# Altium schematic symbol library Schlib.SchLib: 992 symbols (part 1 of 7)
Pins are listed as number, name and electrical type; pins without a type are passive.

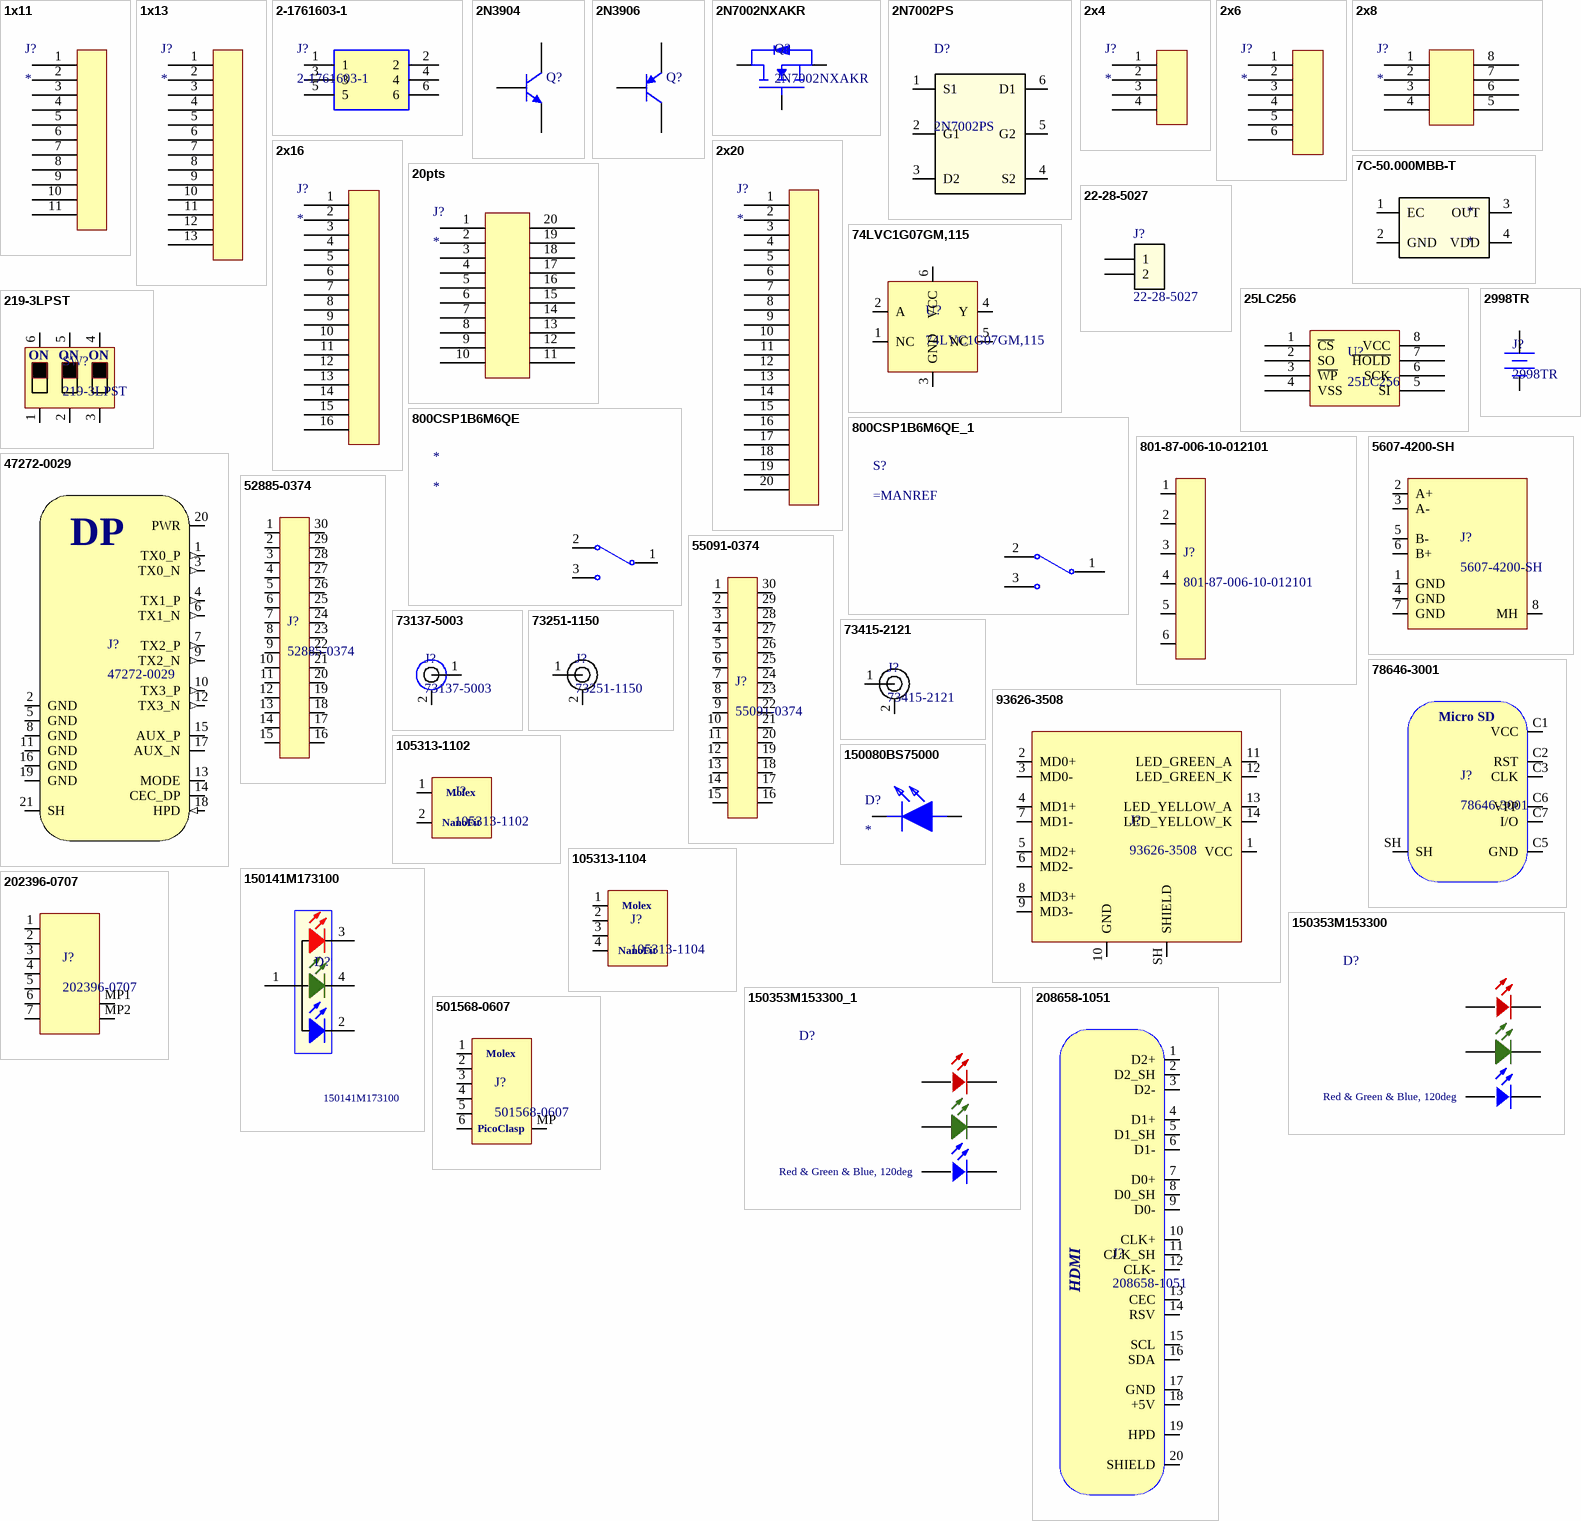
[diagram p0: symbols 1x11 to 501568-0607]

## 1x11
designator J?
pins: 1, 2, 3, 4, 5, 6, 7, 8, 9, 10, 11

## 1x13
designator J?
pins: 1, 2, 3, 4, 5, 6, 7, 8, 9, 10, 11, 12, 13

## 2-1761603-1
designator J?
pins: 1, 2, 3, 4, 5, 6

## 2N3904
designator Q?
NPN General Purpose Amplifier; Published: 8-Jun-2000; LatestRevisionDate: 15-Jan-2003; LatestRevisionNote: PCB Footprint 'BCY-W3/D4.7' replaced; DatasheetVersion: 1997; PackageVersion: Sep-1998; PackageReference: TO-92A; Publisher: Altium Limited; PackageDescription: TO, Flat Index; 3 In-Line, Axial Leads; Body Dia. 4.5mm; Leads 0.51 x 0.48 mm (max); ComponentLink1Description: Manufacturer Link; ComponentLink1URL: http://www.fairchildsemi.com/; ComponentLink2Description: Datasheet; ComponentLink2URL: http://www.fairchildsemi.com/ds/2N%2F2N3904.pdf
footprint TO-92A (TO, Flat Index; 3 In-Line, Axial Leads; Body Dia. 4.5mm; Leads 0.51 x 0.48 mm (max))
simulation model 2N3904 (NPN)
signal-integrity model 2N3904
pins: 1 E, 2 B, 3 C

## 2N3906
designator Q?
PNP General Purpose Amplifier; Published: 8-Jun-2000; LatestRevisionDate: 15-Jan-2003; LatestRevisionNote: PCB Footprint 'BCY-W3/D4.7' replaced; DatasheetVersion: 1997; PackageVersion: Sep-1998; PackageReference: TO-92A; Publisher: Altium Limited; PackageDescription: TO, Flat Index; 3 In-Line, Axial Leads; Body Dia. 4.5mm; Leads 0.51 x 0.48 mm (max); ComponentLink1Description: Manufacturer Link; ComponentLink1URL: http://www.fairchildsemi.com/; ComponentLink2Description: Datasheet; ComponentLink2URL: http://www.fairchildsemi.com/ds/2N%2F2N3906.pdf
footprint TO-92A (TO, Flat Index; 3 In-Line, Axial Leads; Body Dia. 4.5mm; Leads 0.51 x 0.48 mm (max))
simulation model 2N3906 (PNP)
signal-integrity model 2N3906
pins: 1 E, 2 B, 3 C

## 2N7002NXAKR
designator Q?
MOSFET N-Channel Vds=60V Id=300mA with ESD Protection; Manufacturer: Nexperia; Manufacturer Part Number: 2N7002NXAKR
footprint SSM3J338R,LF-SOT23-F
pins: D, G, S

## 2N7002PS
designator D?
Manufacturer_Name: Nexperia; Manufacturer_Part_Number: PESD5V0L4UG,115; Geometry.Height: 1.1mm; Mouser Part Number: 771-PESD5V0L4UG-T/R; Mouser Price/Stock: https://www.mouser.com/Search/Refine.aspx?Keyword=771-PESD5V0L4UG-T%2FR; RS Part Number: 0509475; RS Price/Stock: http://uk.rs-online.com/web/p/products/0509475; Datasheet Link: https://assets.nexperia.com/documents/data-sheet/PESDXL4UF_G_W.pdf
pins: 1 S1, 2 G1, 3 D2, 4 S2, 5 G2, 6 D1

## 2x4
designator J?
pins: 1, 2, 3, 4

## 2x6
designator J?
pins: 1, 2, 3, 4, 5, 6

## 2x8
designator J?
pins: 1, 2, 3, 4, 5, 6, 7, 8

## 2x16
designator J?
pins: 1, 2, 3, 4, 5, 6, 7, 8, 9, 10, 11, 12, 13, 14, 15, 16

## 2x20
designator J?
pins: 1, 2, 3, 4, 5, 6, 7, 8, 9, 10, 11, 12, 13, 14, 15, 16, 17, 18, 19, 20

## 7C-50.000MBB-T
designator *
pins: 1 EC, 2 GND, 3 OUT, 4 VDD

## 20pts
designator J?
pins: 1, 2, 3, 4, 5, 6, 7, 8, 9, 10, 11, 12, 13, 14, 15, 16, 17, 18, 19, 20

## 22-28-5027
designator J?
Manufacturer_Name: Molex; Geometry.Height: 10.67mm; Manufacturer_Part_Number: 22-28-5027; Mouser Part Number: 538-22-28-5027; Mouser Price/Stock: https://www.mouser.com/Search/Refine.aspx?Keyword=538-22-28-5027; RS Part Number: *; RS Price/Stock: *; Datasheet Link: https://www.molex.com/pdm_docs/sd/022285027_sd.pdf
pins: 1, 2

## 25LC256
designator U?
8K-256K SPI Serial EEPROM High Temp Family Data Sheet
pins: 1 ~{CS}, 2 SO, 3 ~{WP}, 4 VSS, 5 SI, 6 SCK, 7 ~{HOLD}, 8 VCC

## 74LVC1G07GM,115
designator U?
Open-Drain Buffer 3.3V/5V Non-Inverting XSON-6; Manufacturer: Nexperia; Manufacturer Part Number: 74LVC1G07GM,115
footprint XSON-6-SOT1202 (SON, 6-Leads, Body 0.98x1.00mm, Pitch 0.35mm, IPC Medium Density)
pins: 1 NC, 2 A, 3 GND, 4 Y, 5 NC, 6 VCC

## 219-3LPST
designator SW?
DIP Switches SPST 3x; Manufacturer: CTS; Manufacturer Part Number: 219-3LPST
footprint 219-3LPST
pins: 1, 2, 3, 4, 5, 6
text: ON

## 800CSP1B6M6QE
designator *
pins: 1, 2, 3

## 800CSP1B6M6QE_1
designator S?
pins: 1, 2, 3

## 801-87-006-10-012101
designator J?
Pin Socket 6 Position 2.54mm Pitch; Manufacturer: preci-dip; Manufacturer Part Number: 801-87-006-10-012101
footprint 801-87-006-10-012101
pins: 1, 2, 3, 4, 5, 6

## 2998TR
designator J?
Coin Cell Battery Holder 6.8mm; Manufacturer: Keystone Electronics; Manufacturer Part Number: 2998TR
footprint 2998TR (6.8mm Coin Cell Holder SMD)
pins: A, K

## 5607-4200-SH
designator J?
SATA Connector 7-Position 1.27mm Pitch Male Right Angle SMD; Manufacturer: 3M; Manufacturer Part Number: 5607-4200-SH
footprint 5607-4200-SH
pins: 1 GND, 2 A+, 3 A-, 4 GND, 5 B-, 6 B+, 7 GND, 8 MH

## 47272-0029
designator J?
DisplayPort Male Receptacle, Right-Angle, Surface Mount, 0.76µm Gold (Au) Plating, 20 Circuits, 0.50mm Pitch, without Cover, Lead-Free; Manufacturer: Molex; Manufacturer Part Number: 47272-0029
footprint 47272-0029
pins: 1 TX0_P (out), 2 GND (power), 3 TX0_N (out), 4 TX1_P (out), 5 GND (power), 6 TX1_N (out), 7 TX2_P (out), 8 GND (power), 9 TX2_N (out), 10 TX3_P (out), 11 GND (power), 12 TX3_N (out), 13 MODE, 14 CEC_DP, 15 AUX_P (io), 16 GND (power), 17 AUX_N (io), 18 HPD (in), 19 GND (power), 20 PWR (power), 21 SH (power)
text: DP

## 52885-0374
designator J?
SlimStack Board-to-Board Connector, 0.635mm Pitch, 0.635 Series, Receptacle, 6.00 to 10.00mm Mated Height, 6.40mm Mated Width, 30 Circuits; Manufacturer: Molex; Manufacturer Part Number: 52885-0374
footprint 52885-0374
pins: 1, 2, 3, 4, 5, 6, 7, 8, 9, 10, 11, 12, 13, 14, 15, 16, 17, 18, 19, 20, 21, 22, 23, 24, 25, 26, 27, 28, 29, 30

## 55091-0374
designator J?
SlimStack Board-to-Board Connector, 0.635mm Pitch, 0.635 Series, Plug, 6.00 or 12.00mm Mated Height, 6.40mm Mated Width, 30 Circuits; Manufacturer: Molex; Manufacturer Part Number: 55091-0374
footprint 55091-0374
pins: 1, 2, 3, 4, 5, 6, 7, 8, 9, 10, 11, 12, 13, 14, 15, 16, 17, 18, 19, 20, 21, 22, 23, 24, 25, 26, 27, 28, 29, 30

## 73137-5003
designator J?
BNC 50 Ohm, Right-Angle PCB Bulkhead Jack Receptacle, Panel Isolated, Black PBT Housing, Housing Height 13.20mm; Manufacturer: Molex; Manufacturer Part Number: 73137-5003
footprint 73137-5003
pins: 1, 2

## 73251-1150
designator J?
RF Connector 50 Ohms, SMA Jack Receptacle, Edge Mount, .25µm Gold (Au) Plating; Manufacturer: Molex; Manufacturer Part Number: 73251-1150
footprint 73251-1150
pins: 1, 2

## 73415-2121
designator J?
RF Connector 50 Ohms, MMCX Vertical Plug, PCB, Plating Per Commercial Requirements, Bulk; Manufacturer: Molex; Manufacturer Part Number: 73415-2121
footprint 73415-2121
pins: 1, 2

## 78646-3001
designator J?
micro-SIM Card Socket without Detect Switch, 1.45mm Height, Push-Pull Eject, Surface Mount, 6 Circuits, Low-Halogen, Lead-Free; Manufacturer: Molex; Manufacturer Part Number: 78646-3001
footprint 78646-3001
pins: C1 VCC, C2 RST, C3 CLK, C5 GND, C6 VPP, C7 I/O, SH
text: Micro SD

## 93626-3508
designator J?
MXMag Gigabit Ethernet 8 Core Non-PoE Single-Port RJ45 Connector, 21.40mm Depth, 3.30mm Phy Pin Length, Right-Angle, Standard Profile, with Shield Tabs, with Green/Yellow-Green/Yellow LEDs, Standard Temperature, with 2kV Shield Connection; Manufacturer: Molex; Manufacturer Part Number: 93626-3508
footprint 93626-3508
pins: 1 VCC, 2 MD0+, 3 MD0-, 4 MD1+, 5 MD2+, 6 MD2-, 7 MD1-, 8 MD3+, 9 MD3-, 10 GND, 11 LED_GREEN_A, 12 LED_GREEN_K, 13 LED_YELLOW_A, 14 LED_YELLOW_K, SH SHIELD

## 105313-1102
designator J?
Nano-Fit Right-Angle Header, Through Hole, 2.50mm Pitch, Single Row, 2 Circuits, Tin (Sn) Plating, Black, Glow-Wire Capable, Tray; Manufacturer: Molex; Manufacturer Part Number: 105313-1102
footprint 105313-1102
pins: 1, 2
text: NanoFit

## 105313-1104
designator J?
Nano-Fit Right-Angle Header, Through Hole, 2.50mm Pitch, Single Row, 2 Circuits, Tin (Sn) Plating, Black, Glow-Wire Capable, Tray; Manufacturer: Molex; Manufacturer Part Number: 105313-1104
footprint 105313-1104
pins: 1, 2, 3, 4
text: NanoFit

## 150080BS75000
designator D?
pins: 1 K, 2 A

## 150141M173100
designator D?
pins: 1 A, 2 K, 3 K, 4 K

## 150353M153300
designator D?, comment Red & Green & Blue, 120deg
footprint WL-SFTW_5050_150505M173300
pins: 1 A, 2 K, 3 A, 4 K, 5 A, 6 K

## 150353M153300_1
designator D?, comment Red & Green & Blue, 120deg
footprint WL-SFTW_5050_150505M173300
pins: 1 A, 2 K, 3 A, 4 K, 5 A, 6 K

## 202396-0707
designator J?
1.00mm Pitch, Pico-Clasp PCB Header, Single Row, Right-Angle, Surface Mount, 0.10µm Gold Plated, Inner Positive Lock, 7 Circuits, Natural; Manufacturer: Molex; Manufacturer Part Number: 202396-0707
footprint 202396-0707
pins: 1, 2, 3, 4, 5, 6, 7, MP1, MP2

## 208658-1051
designator J?
HDMI v2.1 Receptacle, Right-Angle, Gold Flash Plating, without Mylar, without Flange, Tape and Reel, 19 Circuits; Manufacturer: Molex; Manufacturer Part Number: 208658-1051
footprint 208658-1051
pins: 1 D2+, 2 D2_SH, 3 D2-, 4 D1+, 5 D1_SH, 6 D1-, 7 D0+, 8 D0_SH, 9 D0-, 10 CLK+, 11 CLK_SH, 12 CLK-, 13 CEC, 14 RSV, 15 SCL, 16 SDA, 17 GND, 18 +5V, 19 HPD, 20 SHIELD
text: HDMI

## 501568-0607
designator J?
1.00mm Pitch, Pico-Clasp PCB Header, Single Row, Right-Angle, Surface Mount, Tin Plated, Outer Positive Lock, 6 Circuits, Natural; Manufacturer: Molex; Manufacturer Part Number: 501568-0607
footprint 501568-0607
pins: 1, 2, 3, 4, 5, 6, MP
text: PicoClasp

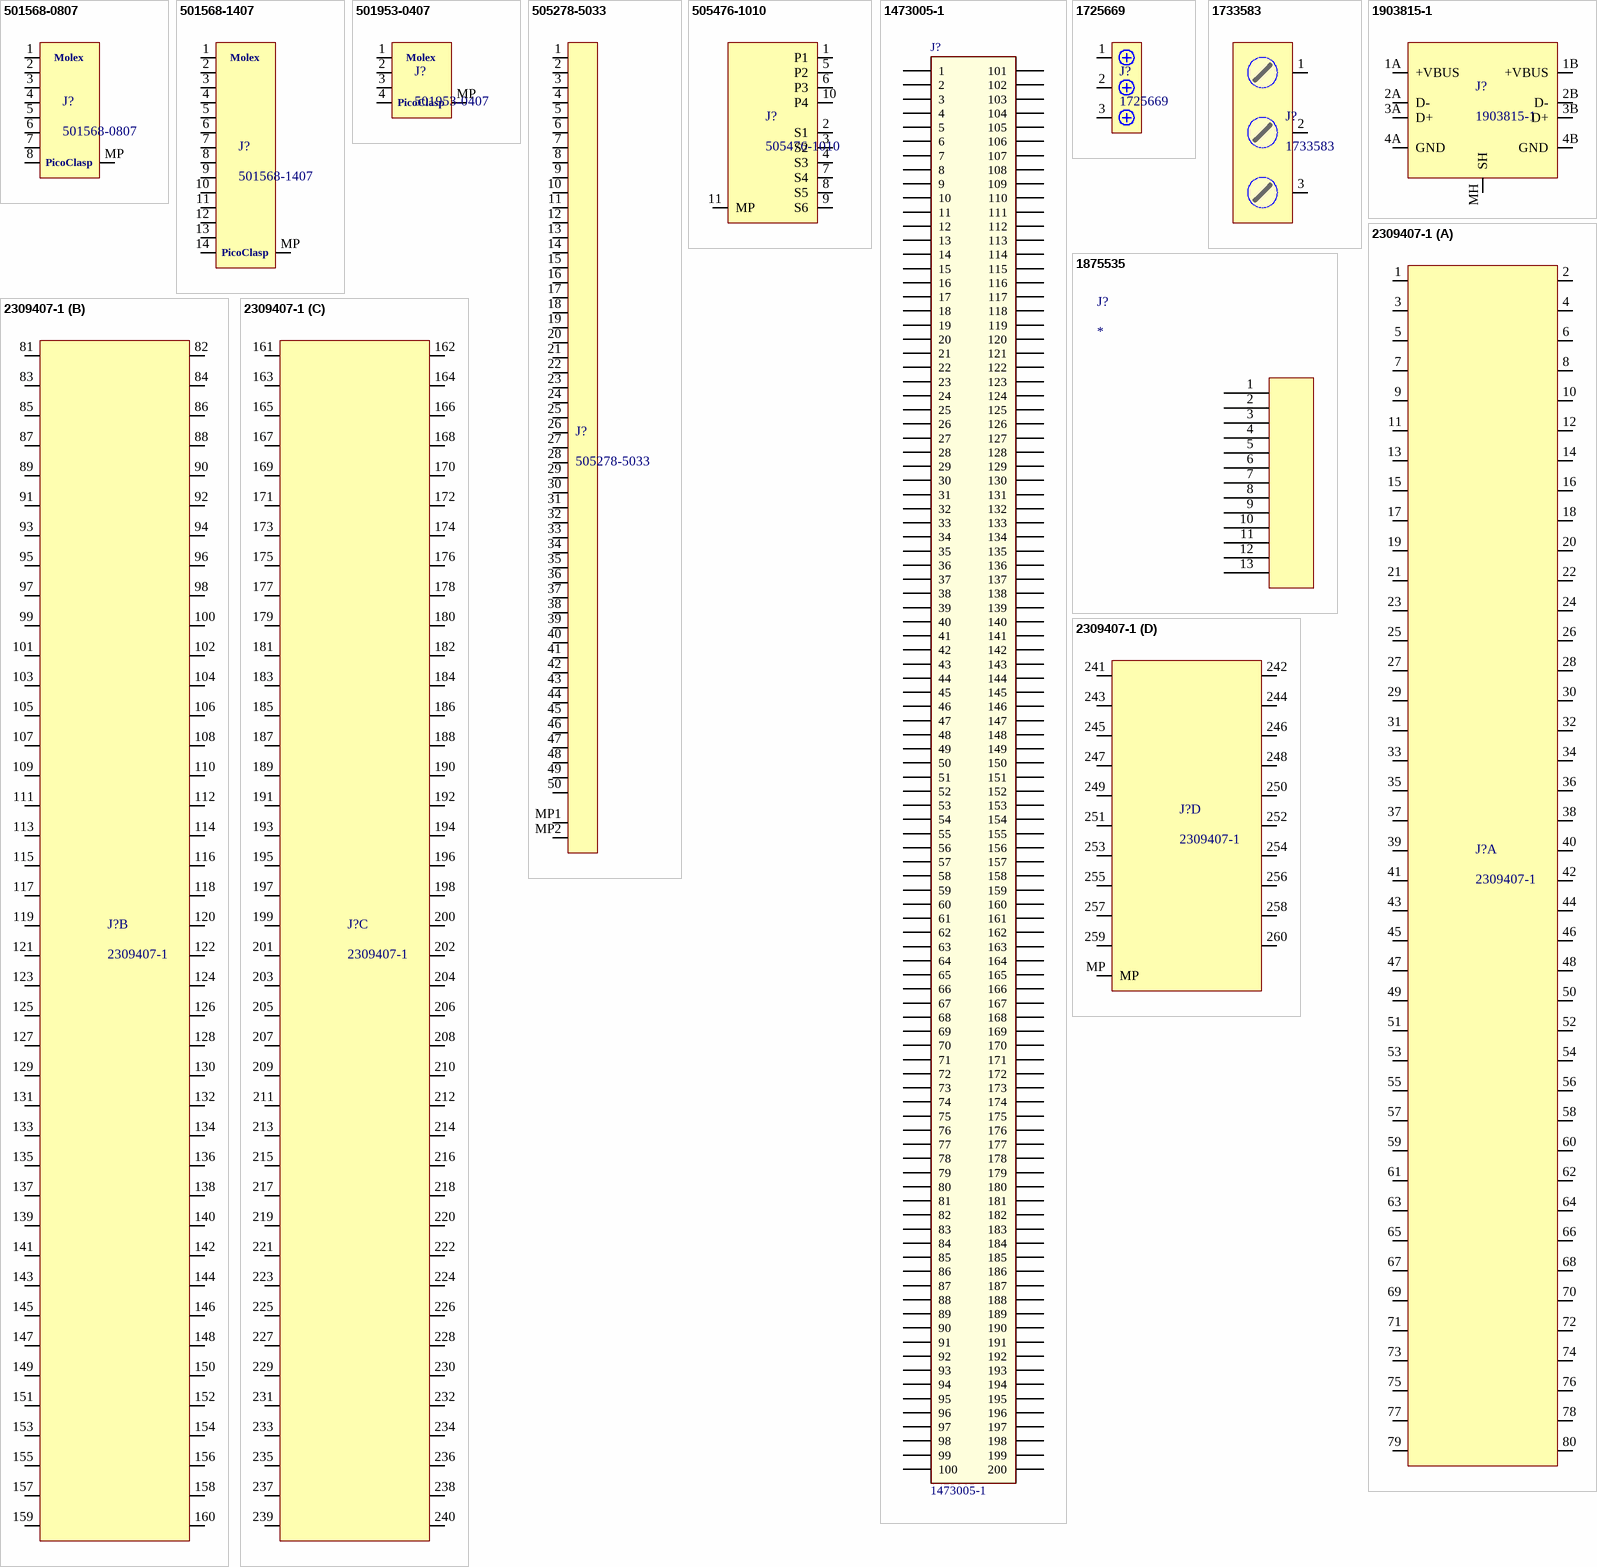
[diagram p1: symbols 501568-0807 to 2309407-1]

## 501568-0807
designator J?
1.00mm Pitch, Pico-Clasp PCB Header, Single Row, Right-Angle, Surface Mount, Tin Plated, Outer Positive Lock, 8 Circuits, Natural; Manufacturer: Molex; Manufacturer Part Number: 501568-0807
footprint 501568-0807
pins: 1, 2, 3, 4, 5, 6, 7, 8, MP
text: PicoClasp

## 501568-1407
designator J?
1.00mm Pitch, Pico-Clasp PCB Header, Single Row, Right-Angle, Surface Mount, Tin Plated, Outer Positive Lock, 14 Circuits, Natural; Manufacturer: Molex; Manufacturer Part Number: 501568-1407
footprint 501568-1407
pins: 1, 2, 3, 4, 5, 6, 7, 8, 9, 10, 11, 12, 13, 14, MP
text: PicoClasp

## 501953-0407
designator J?
1.00mm Pitch, Pico-Clasp PCB Header, Single Row, Right-Angle, Surface Mount, 1.01µm Tin Plated, Outer Positive Lock, 4 Circuits, Natural; Manufacturer: Molex; Manufacturer Part Number: 501953-0407
footprint 501953-0407
pins: 1, 2, 3, 4, MP
text: PicoClasp

## 505278-5033
designator J?
FFC Connector 50 Position 0.5mm Pitch Bottom Contact ZIF; Manufacturer: Molex; Manufacturer Part Number: 505278-5033
footprint 505278-5033
pins: 1, 2, 3, 4, 5, 6, 7, 8, 9, 10, 11, 12, 13, 14, 15, 16, 17, 18, 19, 20, 21, 22, 23, 24, 25, 26, 27, 28, 29, 30, 31, 32, 33, 34, 35, 36, 37, 38, 39, 40, 41, 42, 43, 44, 45, 46, 47, 48, 49, 50, MP1, MP2

## 505476-1010
designator J?
SlimStack Board-to-Board Plug, 0.40mm Pitch, Battery Series, 0.60mm Mated Height, 2.00mm Mated Width, 10 Circuits, 10.0A; Manufacturer: Molex; Manufacturer Part Number: 505476-1010
footprint 505476-1010
pins: 1 P1 (power), 2 S1 (io), 3 S2 (io), 4 S3 (io), 5 P2 (power), 6 P3 (power), 7 S4 (io), 8 S5 (io), 9 S6 (io), 10 P4 (power), 11 MP

## 1473005-1
designator J?
Manufacturer_Name: TE Connectivity; Allied_Number: 70086003; Manufacturer_Part_Number: 1473005-1; Mouser Part Number: 571-1473005-1; Mouser Price/Stock: https://www.mouser.com/Search/Refine.aspx?Keyword=571-1473005-1; RS Part Number: 5422663; RS Price/Stock: http://uk.rs-online.com/web/p/products/5422663; Allied Price/Stock: http://www.alliedelec.com/te-connectivity-1473005-1/70086003/; Datasheet Link: http://docs-emea.rs-online.com/webdocs/139e/0900766b8139e926.pdf
pins: 1, 2, 3, 4, 5, 6, 7, 8, 9, 10, 11, 12, 13, 14, 15, 16, 17, 18, 19, 20, 21, 22, 23, 24, 25, 26, 27, 28, 29, 30, 31, 32, 33, 34, 35, 36, 37, 38, 39, 40, 41, 42, 43, 44, 45, 46, 47, 48, 49, 50, 51, 52, 53, 54, 55, 56, 57, 58, 59, 60, 61, 62, 63, 64, 65, 66, 67, 68, 69, 70, 71, 72, 73, 74, 75, 76, 77, 78, 79, 80, 81, 82, 83, 84, 85, 86, 87, 88, 89, 90, 91, 92, 93, 94, 95, 96, 97, 98, 99, 100, 101, 102, 103, 104, 105, 106, 107, 108, 109, 110, 111, 112, 113, 114, 115, 116, 117, 118, 119, 120, 121, 122, 123, 124, 125, 126, 127, 128, 129, 130, 131, 132, 133, 134, 135, 136, 137, 138, 139, 140, 141, 142, 143, 144, 145, 146, 147, 148, 149, 150, 151, 152, 153, 154, 155, 156, 157, 158, 159, 160, 161, 162, 163, 164, 165, 166, 167, 168, 169, 170, 171, 172, 173, 174, 175, 176, 177, 178, 179, 180, 181, 182, 183, 184, 185, 186, 187, 188, 189, 190, 191, 192, 193, 194, 195, 196, 197, 198, 199, 200

## 1725669
designator J?
Screw Terminal Block 3 Positions 2.54mm; Manufacturer: Phoenix; Manufacturer Part Number: 1725669; Distributor Link: https://www.mouser.de/ProductDetail/Phoenix-Contact/1725669?qs=A%2FKWGUWTCZjmkTL0Oe91ew%3D%3D
footprint 1725669
pins: 1, 2, 3

## 1733583
designator J?
Screw Terminal 3 Position 5.08mm Pitch Phoenix; Manufacturer: Phoenix Contact; Manufacturer Part Number: 1733583
footprint 1733583
pins: 1, 2, 3

## 1875535
designator J?
pins: 1, 2, 3, 4, 5, 6, 7, 8, 9, 10, 11, 12, 13

## 1903815-1
designator J?
USB Connectors, A, 2.0, Standard Profile, Female Receptacle, 2 Port, Top, Right Angle, IP20, Offset, Industrial USB IP20; Manufacturer: TE Connectivity; Manufacturer Part Number: 1903815-1
footprint 1903815-1
pins: 1A +VBUS, 1B +VBUS, 2A D-, 2B D-, 3A D+, 3B D+, 4A GND, 4B GND, MH SH

## 2309407-1
designator J?
SO DIMM Socket, Small Outline (SO), Stack Height .157 in [4 mm], Right Angle Module Orientation, 260 Position, DDR4 DIMM; Manufacturer: TE Connectivity; Manufacturer Part Number: 2309407-1
footprint 2309407-1
part A pins: 1, 2, 3, 4, 5, 6, 7, 8, 9, 10, 11, 12, 13, 14, 15, 16, 17, 18, 19, 20, 21, 22, 23, 24, 25, 26, 27, 28, 29, 30, 31, 32, 33, 34, 35, 36, 37, 38, 39, 40, 41, 42, 43, 44, 45, 46, 47, 48, 49, 50, 51, 52, 53, 54, 55, 56, 57, 58, 59, 60, 61, 62, 63, 64, 65, 66, 67, 68, 69, 70, 71, 72, 73, 74, 75, 76, 77, 78, 79, 80
part B pins: 81, 82, 83, 84, 85, 86, 87, 88, 89, 90, 91, 92, 93, 94, 95, 96, 97, 98, 99, 100, 101, 102, 103, 104, 105, 106, 107, 108, 109, 110, 111, 112, 113, 114, 115, 116, 117, 118, 119, 120, 121, 122, 123, 124, 125, 126, 127, 128, 129, 130, 131, 132, 133, 134, 135, 136, 137, 138, 139, 140, 141, 142, 143, 144, 145, 146, 147, 148, 149, 150, 151, 152, 153, 154, 155, 156, 157, 158, 159, 160
part C pins: 161, 162, 163, 164, 165, 166, 167, 168, 169, 170, 171, 172, 173, 174, 175, 176, 177, 178, 179, 180, 181, 182, 183, 184, 185, 186, 187, 188, 189, 190, 191, 192, 193, 194, 195, 196, 197, 198, 199, 200, 201, 202, 203, 204, 205, 206, 207, 208, 209, 210, 211, 212, 213, 214, 215, 216, 217, 218, 219, 220, 221, 222, 223, 224, 225, 226, 227, 228, 229, 230, 231, 232, 233, 234, 235, 236, 237, 238, 239, 240
part D pins: 241, 242, 243, 244, 245, 246, 247, 248, 249, 250, 251, 252, 253, 254, 255, 256, 257, 258, 259, 260, MP

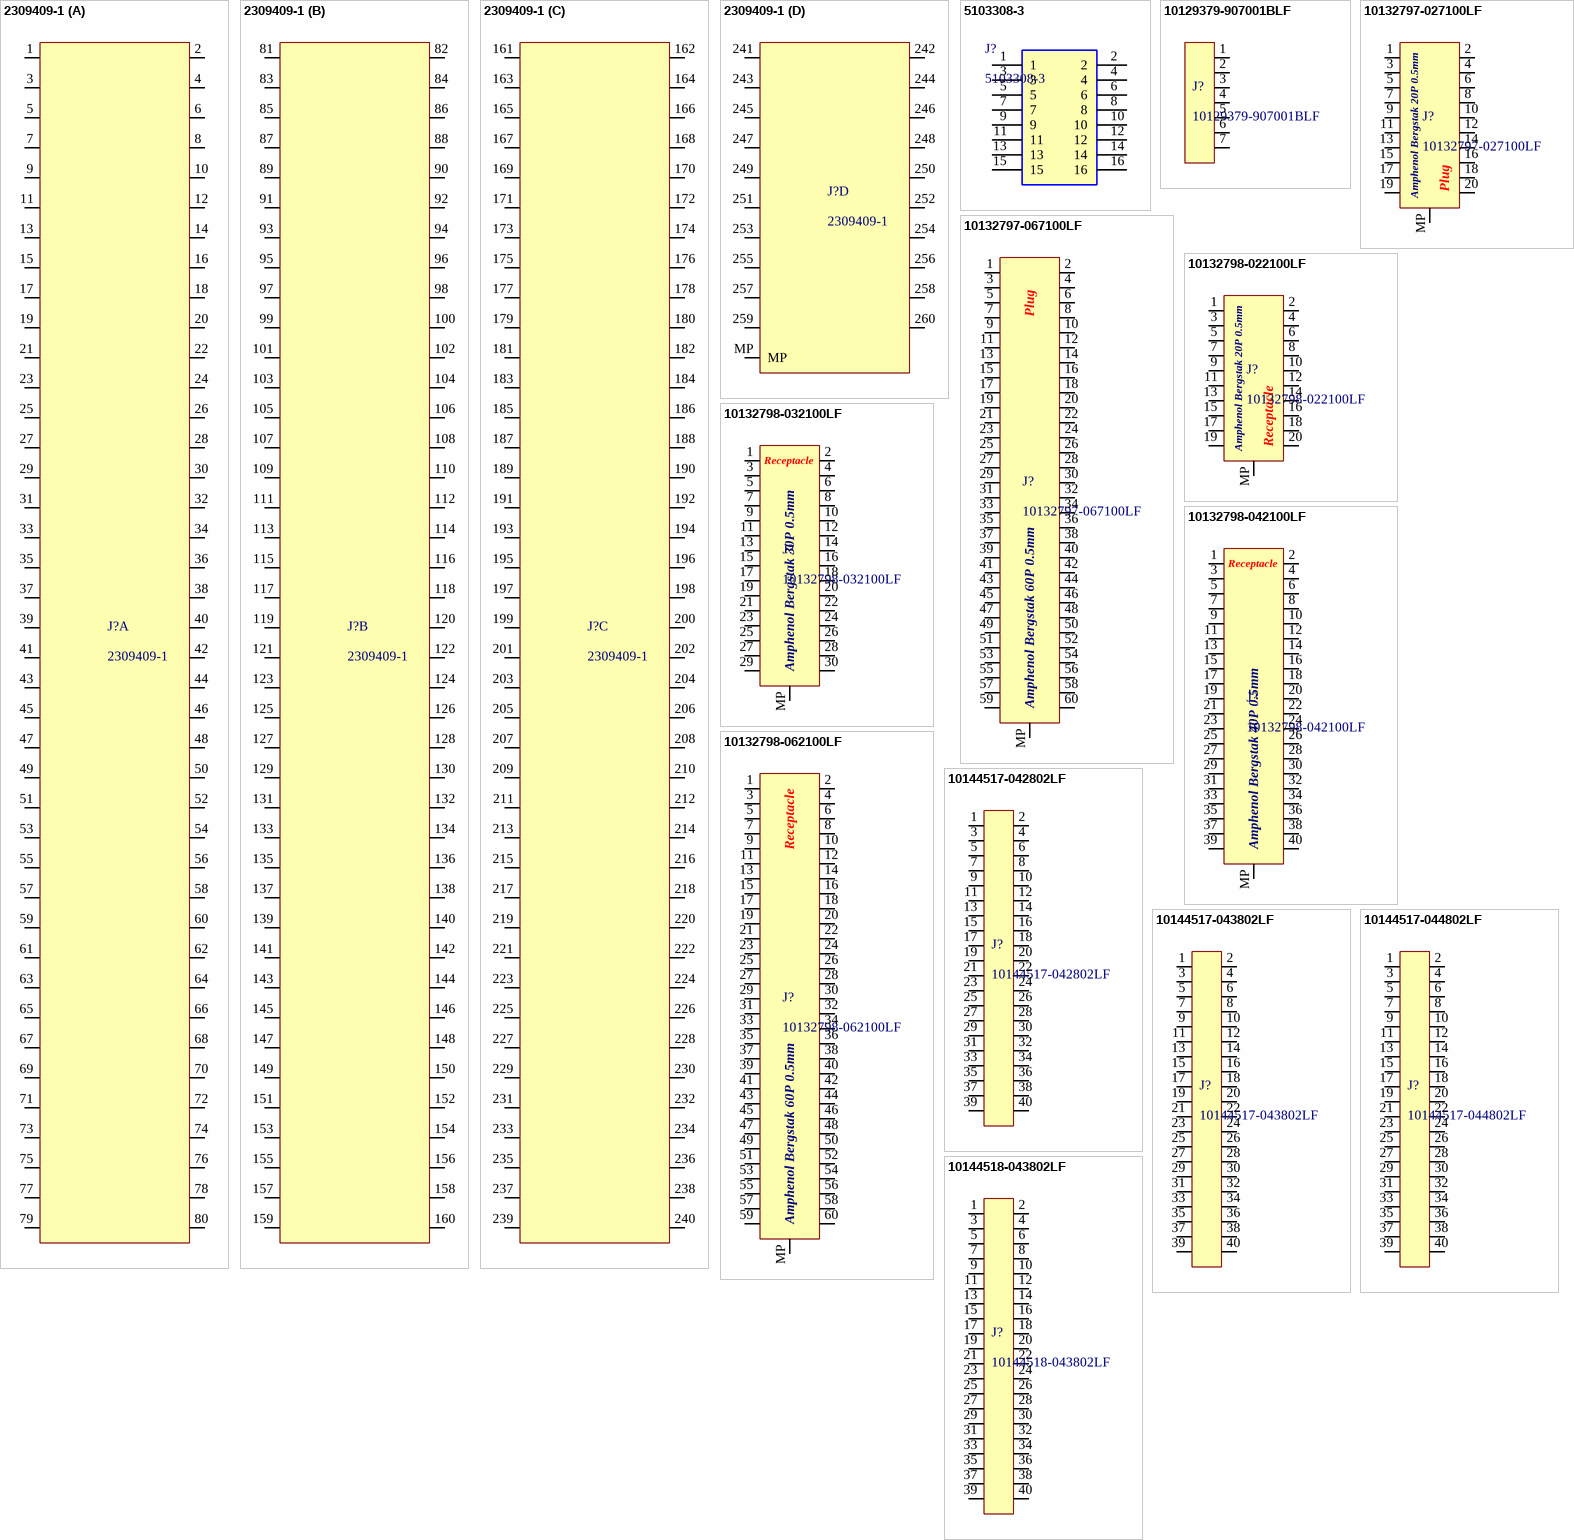
[diagram p2: symbols 2309409-1 to 10144518-043802LF]

## 2309409-1
designator J?
SO DIMM Socket, Small Outline (SO), Stack Height .205 in [5.2 mm], Right Angle Module Orientation, 260 Position, DDR4 DIMM; Manufacturer: TE Connectivity; Manufacturer Part Number: 2309409-1
footprint 2309409-1
part A pins: 1, 2, 3, 4, 5, 6, 7, 8, 9, 10, 11, 12, 13, 14, 15, 16, 17, 18, 19, 20, 21, 22, 23, 24, 25, 26, 27, 28, 29, 30, 31, 32, 33, 34, 35, 36, 37, 38, 39, 40, 41, 42, 43, 44, 45, 46, 47, 48, 49, 50, 51, 52, 53, 54, 55, 56, 57, 58, 59, 60, 61, 62, 63, 64, 65, 66, 67, 68, 69, 70, 71, 72, 73, 74, 75, 76, 77, 78, 79, 80
part B pins: 81, 82, 83, 84, 85, 86, 87, 88, 89, 90, 91, 92, 93, 94, 95, 96, 97, 98, 99, 100, 101, 102, 103, 104, 105, 106, 107, 108, 109, 110, 111, 112, 113, 114, 115, 116, 117, 118, 119, 120, 121, 122, 123, 124, 125, 126, 127, 128, 129, 130, 131, 132, 133, 134, 135, 136, 137, 138, 139, 140, 141, 142, 143, 144, 145, 146, 147, 148, 149, 150, 151, 152, 153, 154, 155, 156, 157, 158, 159, 160
part C pins: 161, 162, 163, 164, 165, 166, 167, 168, 169, 170, 171, 172, 173, 174, 175, 176, 177, 178, 179, 180, 181, 182, 183, 184, 185, 186, 187, 188, 189, 190, 191, 192, 193, 194, 195, 196, 197, 198, 199, 200, 201, 202, 203, 204, 205, 206, 207, 208, 209, 210, 211, 212, 213, 214, 215, 216, 217, 218, 219, 220, 221, 222, 223, 224, 225, 226, 227, 228, 229, 230, 231, 232, 233, 234, 235, 236, 237, 238, 239, 240
part D pins: 241, 242, 243, 244, 245, 246, 247, 248, 249, 250, 251, 252, 253, 254, 255, 256, 257, 258, 259, 260, MP

## 5103308-3
designator J?
pins: 1, 2, 3, 4, 5, 6, 7, 8, 9, 10, 11, 12, 13, 14, 15, 16

## 10129379-907001BLF
designator J?
EconoStik™ 2.54mm, Board to Board Connector, Unshrouded Right Angled Header, Through Hole, Single Row, 7 Positions, 2.54 mm (0.100in) Pitch; Manufacturer: Amphenol; Manufacturer Part Number: 10129379-907001BLF
footprint 10129379-907001BLF
pins: 1, 2, 3, 4, 5, 6, 7

## 10132797-027100LF
designator J?
BergStak® 0.5mm Mezzanine Connector, Board To Board Connectors, 20 position, 5.3mm height plug connector; Manufacturer: Amphenol; Manufacturer Part Number: 10132797-027100LF
footprint 10132797-027100LF
pins: 1, 2, 3, 4, 5, 6, 7, 8, 9, 10, 11, 12, 13, 14, 15, 16, 17, 18, 19, 20, MP
text: Amphenol Bergstak 20P 0.5mm; Plug

## 10132797-067100LF
designator J?
BergStak® 0.5mm Mezzanine Connector, Board To Board Connectors, 60 position, 5.3mm height plug connector; Manufacturer: Amphenol; Manufacturer Part Number: 10132797-067100LF
footprint 10132797-067100LF
pins: 1, 2, 3, 4, 5, 6, 7, 8, 9, 10, 11, 12, 13, 14, 15, 16, 17, 18, 19, 20, 21, 22, 23, 24, 25, 26, 27, 28, 29, 30, 31, 32, 33, 34, 35, 36, 37, 38, 39, 40, 41, 42, 43, 44, 45, 46, 47, 48, 49, 50, 51, 52, 53, 54, 55, 56, 57, 58, 59, 60, MP
text: Plug; Amphenol Bergstak 60P 0.5mm

## 10132798-022100LF
designator J?
BergStak® 0.5mm Mezzanine Connector, Board To Board Connectors, 20 position, 2.7mm height receptacle connector; Manufacturer: Amphenol; Manufacturer Part Number: 10132798-022100LF
footprint 10132798-022100LF
pins: 1, 2, 3, 4, 5, 6, 7, 8, 9, 10, 11, 12, 13, 14, 15, 16, 17, 18, 19, 20, MP
text: Amphenol Bergstak 20P 0.5mm; Receptacle

## 10132798-032100LF
designator J?
BergStak® 0.5mm Mezzanine Connector, Board To Board Connectors, 30 position, 2.7mm height receptacle connector; Manufacturer: Amphenol; Manufacturer Part Number: 10132798-032100LF
footprint 10132798-032100LF
pins: 1, 2, 3, 4, 5, 6, 7, 8, 9, 10, 11, 12, 13, 14, 15, 16, 17, 18, 19, 20, 21, 22, 23, 24, 25, 26, 27, 28, 29, 30, MP
text: Receptacle; Amphenol Bergstak 30P 0.5mm

## 10132798-042100LF
designator J?
BergStak® 0.5mm Mezzanine Connector, Board To Board Connectors, 40 position, 2.7mm height receptacle connector; Manufacturer: Amphenol; Manufacturer Part Number: 10132798-042100LF
footprint 10132798-042100LF
pins: 1, 2, 3, 4, 5, 6, 7, 8, 9, 10, 11, 12, 13, 14, 15, 16, 17, 18, 19, 20, 21, 22, 23, 24, 25, 26, 27, 28, 29, 30, 31, 32, 33, 34, 35, 36, 37, 38, 39, 40, MP
text: Receptacle; Amphenol Bergstak 40P 0.5mm

## 10132798-062100LF
designator J?
BergStak® 0.5mm Mezzanine Connector, Board To Board Connectors, 60 position, 2.7mm height receptacle connector; Manufacturer: Amphenol; Manufacturer Part Number: 10132798-062100LF
footprint 10132798-062100LF
pins: 1, 2, 3, 4, 5, 6, 7, 8, 9, 10, 11, 12, 13, 14, 15, 16, 17, 18, 19, 20, 21, 22, 23, 24, 25, 26, 27, 28, 29, 30, 31, 32, 33, 34, 35, 36, 37, 38, 39, 40, 41, 42, 43, 44, 45, 46, 47, 48, 49, 50, 51, 52, 53, 54, 55, 56, 57, 58, 59, 60, MP
text: Receptacle; Amphenol Bergstak 60P 0.5mm

## 10144517-042802LF
designator J?
BergStak Lite 0.80mm Board-to-Board Connector 40 Position Dual Row Vertical Receptacle 7.7mm Stack Height; Manufacturer: Amphenol; Manufacturer Part Number: 10144517-042802LF
footprint 10144517-042802LF
pins: 1, 2, 3, 4, 5, 6, 7, 8, 9, 10, 11, 12, 13, 14, 15, 16, 17, 18, 19, 20, 21, 22, 23, 24, 25, 26, 27, 28, 29, 30, 31, 32, 33, 34, 35, 36, 37, 38, 39, 40

## 10144517-043802LF
designator J?
BergStak Lite 0.80mm Board-to-Board Connector 40 Position Dual Row Vertical Receptacle 11.7mm Stack Height; Manufacturer: Amphenol; Manufacturer Part Number: 10144517-043802LF
footprint 10144517-043802LF
pins: 1, 2, 3, 4, 5, 6, 7, 8, 9, 10, 11, 12, 13, 14, 15, 16, 17, 18, 19, 20, 21, 22, 23, 24, 25, 26, 27, 28, 29, 30, 31, 32, 33, 34, 35, 36, 37, 38, 39, 40

## 10144517-044802LF
designator J?
BergStak Lite 0.80mm Board-to-Board Connector 40 Position Dual Row Vertical Receptacle 15.7mm Stack Height; Manufacturer: Amphenol; Manufacturer Part Number: 10144517-044802LF
footprint 10144517-044802LF
pins: 1, 2, 3, 4, 5, 6, 7, 8, 9, 10, 11, 12, 13, 14, 15, 16, 17, 18, 19, 20, 21, 22, 23, 24, 25, 26, 27, 28, 29, 30, 31, 32, 33, 34, 35, 36, 37, 38, 39, 40

## 10144518-043802LF
designator J?
BergStak Lite 0.80mm Board-to-Board Connector 40 Position Dual Row Vertical Header; Manufacturer: Amphenol; Manufacturer Part Number: 10144518-043802LF
footprint 10144518-043802LF
pins: 1, 2, 3, 4, 5, 6, 7, 8, 9, 10, 11, 12, 13, 14, 15, 16, 17, 18, 19, 20, 21, 22, 23, 24, 25, 26, 27, 28, 29, 30, 31, 32, 33, 34, 35, 36, 37, 38, 39, 40

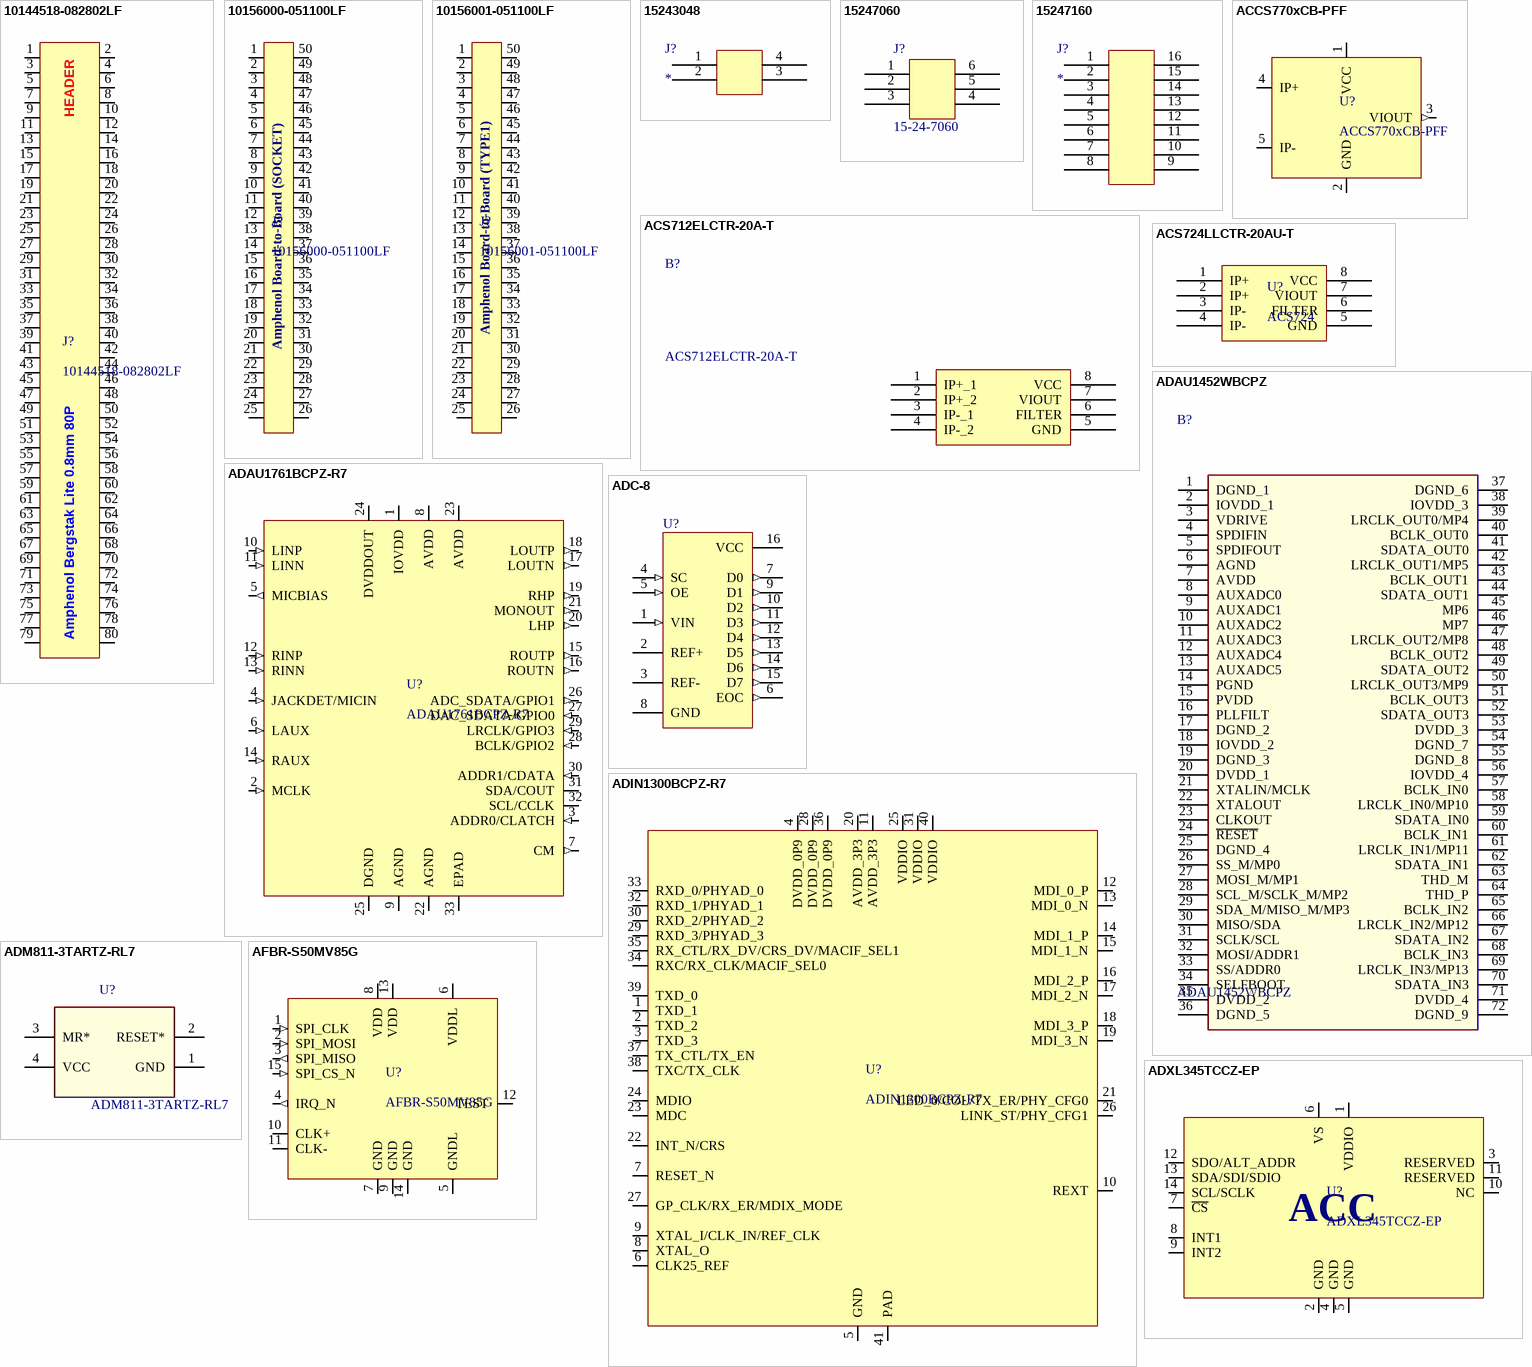
[diagram p3: symbols 10144518-082802LF to AFBR-S50MV85G]

## 10144518-082802LF
designator J?
BergStak® Lite 0.80mm, Board-to-Board Connector, 80 Positions, Dual Row, Vertical Header; Manufacturer: Amphenol; Manufacturer Part Number: 10144518-082802LF
footprint 10144518-082802LF
pins: 1, 2, 3, 4, 5, 6, 7, 8, 9, 10, 11, 12, 13, 14, 15, 16, 17, 18, 19, 20, 21, 22, 23, 24, 25, 26, 27, 28, 29, 30, 31, 32, 33, 34, 35, 36, 37, 38, 39, 40, 41, 42, 43, 44, 45, 46, 47, 48, 49, 50, 51, 52, 53, 54, 55, 56, 57, 58, 59, 60, 61, 62, 63, 64, 65, 66, 67, 68, 69, 70, 71, 72, 73, 74, 75, 76, 77, 78, 79, 80
text: HEADER; Amphenol Bergstak Lite 0.8mm 80P

## 10156000-051100LF
designator J?
Board-to-Board Connector 0.5mm Pitch 50 Position 2 Row; Manufacturer: Amphenol FCI; Manufacturer Part Number: 10156000-051100LF
footprint 10156000-051100LF
pins: 1, 2, 3, 4, 5, 6, 7, 8, 9, 10, 11, 12, 13, 14, 15, 16, 17, 18, 19, 20, 21, 22, 23, 24, 25, 26, 27, 28, 29, 30, 31, 32, 33, 34, 35, 36, 37, 38, 39, 40, 41, 42, 43, 44, 45, 46, 47, 48, 49, 50
text: Amphenol Board-to-Board (SOCKET)

## 10156001-051100LF
designator J?
Board-to-Board Connector 0.5mm Pitch 50 Position 2 Row; Manufacturer: Amphenol FCI; Manufacturer Part Number: 10156001-051100LF
footprint 10156001-051100LF
pins: 1, 2, 3, 4, 5, 6, 7, 8, 9, 10, 11, 12, 13, 14, 15, 16, 17, 18, 19, 20, 21, 22, 23, 24, 25, 26, 27, 28, 29, 30, 31, 32, 33, 34, 35, 36, 37, 38, 39, 40, 41, 42, 43, 44, 45, 46, 47, 48, 49, 50
text: Amphenol Board-to-Board (TYPE1)

## 15243048
designator J?
pins: 1, 2, 3, 4

## 15247060
designator J?, comment 15-24-7060
footprint 15247060
pins: 1, 2, 3, 4, 5, 6

## 15247160
designator J?
pins: 1, 2, 3, 4, 5, 6, 7, 8, 9, 10, 11, 12, 13, 14, 15, 16

## ACCS770xCB-PFF
designator U?
Thermally Enhanced, Fully Integrated, Hall-Effect-Based / High-Precision Linear Current Sensor IC with 100 µΩ Current Conductor PFF Leadform; Manufacturer: Allegro MicroSystems; Manufacturer Part Number: ACS770*CB-*-PFF
footprint ACS770-PFF
pins: 1 VCC (power), 2 GND (power), 3 VIOUT (out), 4 IP+ (power), 5 IP- (power)

## ACS712ELCTR-20A-T
designator B?
pins: 1 IP+_1, 2 IP+_2, 3 IP-_1, 4 IP-_2, 5 GND, 6 FILTER, 7 VIOUT, 8 VCC

## ACS724LLCTR-20AU-T
designator U?, comment ACS724
SENSOR CURRENT HALL 20A DC
pins: 1 IP+, 2 IP+, 3 IP-, 4 IP-, 5 GND, 6 FILTER, 7 VIOUT, 8 VCC

## ADAU1452WBCPZ
designator B?
Manufacturer_Name: Analog Devices; Manufacturer_Part_Number: ADAU1452WBCPZ; Mouser Part Number: 584-ADAU1452WBCPZ; Mouser Price/Stock: https://www.mouser.com/Search/Refine.aspx?Keyword=584-ADAU1452WBCPZ; RS Part Number: 7989916P; RS Price/Stock: http://uk.rs-online.com/web/p/products/7989916P; Datasheet Link: http://www.farnell.com/datasheets/2039590.pdf
pins: 1 DGND_1, 2 IOVDD_1, 3 VDRIVE, 4 SPDIFIN, 5 SPDIFOUT, 6 AGND, 7 AVDD, 8 AUXADC0, 9 AUXADC1, 10 AUXADC2, 11 AUXADC3, 12 AUXADC4, 13 AUXADC5, 14 PGND, 15 PVDD, 16 PLLFILT, 17 DGND_2, 18 IOVDD_2, 19 DGND_3, 20 DVDD_1, 21 XTALIN/MCLK, 22 XTALOUT, 23 CLKOUT, 24 ~{RESET}, 25 DGND_4, 26 SS_M/MP0, 27 MOSI_M/MP1, 28 SCL_M/SCLK_M/MP2, 29 SDA_M/MISO_M/MP3, 30 MISO/SDA, 31 SCLK/SCL, 32 MOSI/ADDR1, 33 SS/ADDR0, 34 SELFBOOT, 35 DVDD_2, 36 DGND_5, 37 DGND_6, 38 IOVDD_3, 39 LRCLK_OUT0/MP4, 40 BCLK_OUT0, 41 SDATA_OUT0, 42 LRCLK_OUT1/MP5, 43 BCLK_OUT1, 44 SDATA_OUT1, 45 MP6, 46 MP7, 47 LRCLK_OUT2/MP8, 48 BCLK_OUT2, 49 SDATA_OUT2, 50 LRCLK_OUT3/MP9, 51 BCLK_OUT3, 52 SDATA_OUT3, 53 DVDD_3, 54 DGND_7, 55 DGND_8, 56 IOVDD_4, 57 BCLK_IN0, 58 LRCLK_IN0/MP10, 59 SDATA_IN0, 60 BCLK_IN1, 61 LRCLK_IN1/MP11, 62 SDATA_IN1, 63 THD_M, 64 THD_P, 65 BCLK_IN2, 66 LRCLK_IN2/MP12, 67 SDATA_IN2, 68 BCLK_IN3, 69 LRCLK_IN3/MP13, 70 SDATA_IN3, 71 DVDD_4, 72 DGND_9

## ADAU1761BCPZ-R7
designator U?
Manufacturer: Analog Devices; Manufacturer Part Number: ADAU1761BCPZ-R7
footprint LFCSP-VQ
pins: 1 IOVDD (power), 2 MCLK (in), 3 ADDR0/CLATCH (in), 4 JACKDET/MICIN (in), 5 MICBIAS (out), 6 LAUX (in), 7 CM (out), 8 AVDD (power), 9 AGND (power), 10 LINP (in), 11 LINN (in), 12 RINP (in), 13 RINN (in), 14 RAUX (in), 15 ROUTP (out), 16 ROUTN (out), 17 LOUTN (out), 18 LOUTP (out), 19 RHP (out), 20 LHP (out), 21 MONOUT (out), 22 AGND (power), 23 AVDD (power), 24 DVDDOUT (power), 25 DGND (power), 26 ADC_SDATA/GPIO1 (out), 27 DAC_SDATA/GPIO0 (in), 28 BCLK/GPIO2 (in), 29 LRCLK/GPIO3 (in), 30 ADDR1/CDATA (in), 31 SDA/COUT (oc), 32 SCL/CCLK (oc), 33 EPAD (power)

## ADC-8
designator U?
Generic 8-Bit A/D Converter; Published: 8-Jun-2000; LatestRevisionDate: 29-May-2009; LatestRevisionNote: IPC-7351 Footprint Added.; PackageVersion: Mar-2002; PackageReference: SOT403-1; Publisher: Altium Limited; PackageDescription: 16-Pin Thin Small Outline Package 0.65 mm Pitch; Code_JEDEC: MO-153
footprint SOT403-1_N (TSOP, 16-Leads, Body 5x4.4mm, Pitch 0.65mm, IPC Medium Density)
footprint SOT403-1_L (TSOP, 16-Leads, Body 5x4.4mm, Pitch 0.65mm, IPC High Density)
footprint SOT403-1_M (TSOP, 16-Leads, Body 5x4.4mm, Pitch 0.65mm, IPC Low Density)
simulation model ADC8 (SIMCODE)
pins: 1 VIN (in), 2 REF+, 3 REF-, 4 SC (in), 5 OE (in), 6 EOC (out), 7 D0 (out), 8 GND (power), 9 D1 (out), 10 D2 (out), 11 D3 (out), 12 D4 (out), 13 D5 (out), 14 D6 (out), 15 D7 (out), 16 VCC (power)

## ADIN1300BCPZ-R7
designator U?
Gigabit Ethernet PHY MII/RGMII/RMII; Manufacturer: Analog Devices; Manufacturer Part Number: ADIN1300BCPZ-R7
footprint LFCSP-CP-40-26 (QFN, 40-Leads, Body 6,00x6,00mm, Pitch 0,50mm, Thermal Pad 2,77x2,77mm, IPC Medium Density)
pins: 1 TXD_1, 2 TXD_2, 3 TXD_3, 4 DVDD_0P9, 5 GND, 6 CLK25_REF, 7 RESET_N, 8 XTAL_O, 9 XTAL_I/CLK_IN/REF_CLK, 10 REXT, 11 AVDD_3P3, 12 MDI_0_P, 13 MDI_0_N, 14 MDI_1_P, 15 MDI_1_N, 16 MDI_2_P, 17 MDI_2_N, 18 MDI_3_P, 19 MDI_3_N, 20 AVDD_3P3, 21 LED_0/COL/TX_ER/PHY_CFG0, 22 INT_N/CRS, 23 MDC, 24 MDIO, 25 VDDIO, 26 LINK_ST/PHY_CFG1, 27 GP_CLK/RX_ER/MDIX_MODE, 28 DVDD_0P9, 29 RXD_3/PHYAD_3, 30 RXD_2/PHYAD_2, 31 VDDIO, 32 RXD_1/PHYAD_1, 33 RXD_0/PHYAD_0, 34 RXC/RX_CLK/MACIF_SEL0, 35 RX_CTL/RX_DV/CRS_DV/MACIF_SEL1, 36 DVDD_0P9, 37 TX_CTL/TX_EN, 38 TXC/TX_CLK, 39 TXD_0, 40 VDDIO, 41 PAD

## ADM811-3TARTZ-RL7
designator U?
MF: Analog Devices; Digi-Key_Part_Number: ADM811-3TARTZ-RL7CT-ND; Package: SOT-143-4 Analog Devices; SnapEDA_Link: https://www.snapeda.com/parts/ADM811-3TARTZ-RL7/Analog%20Devices%20Inc./view-part/358002/?ref=snap; Digi-Key_Purchase_URL: https://www.digikey.tn/product-detail/en/analog-devices-inc/ADM811-3TARTZ-RL7/ADM811-3TARTZ-RL7CT-ND/2467712?utm_source=snapeda&utm_medium=aggregator&utm_campaign=symbol; MP: ADM811-3TARTZ-RL7; Value: *
pins: 1 GND, 2 RESET*, 3 MR*, 4 VCC (power)

## ADXL345TCCZ-EP
designator U?
3-Axis, ±2 g/±4 g/±8 g/±16 g Digital Accelerometer Extended Performance SPI/I2C; Manufacturer: Analog Devices; Manufacturer Part Number: ADXL345TCCZ-EP
footprint LGA_CC-14-1_ADI
pins: 1 VDDIO, 2 GND, 3 RESERVED, 4 GND, 5 GND, 6 VS, 7 ~{CS}, 8 INT1, 9 INT2, 10 NC, 11 RESERVED, 12 SDO/ALT_ADDR, 13 SDA/SDI/SDIO, 14 SCL/SCLK
text: ACC

## AFBR-S50MV85G
designator U?
Time-of-Flight Sensor Module for Distance and Motion Measurement; Manufacturer: Broadcom; Manufacturer Part Number: AFBR-S50MV85G; Distributor Link: https://www.mouser.de/ProductDetail/Broadcom-Avago/AFBR-S50MV85G?qs=gZXFycFWdAMjTxpgATYDVg%3D%3D
footprint AFBR-S50MV*
pins: 1 SPI_CLK (in), 2 SPI_MOSI (in), 3 SPI_MISO (out), 4 IRQ_N (out), 5 GNDL (power), 6 VDDL (power), 7 GND (power), 8 VDD (power), 9 GND (power), 10 CLK+ (io), 11 CLK- (io), 12 TEST, 13 VDD (power), 14 GND (power), 15 SPI_CS_N (in)

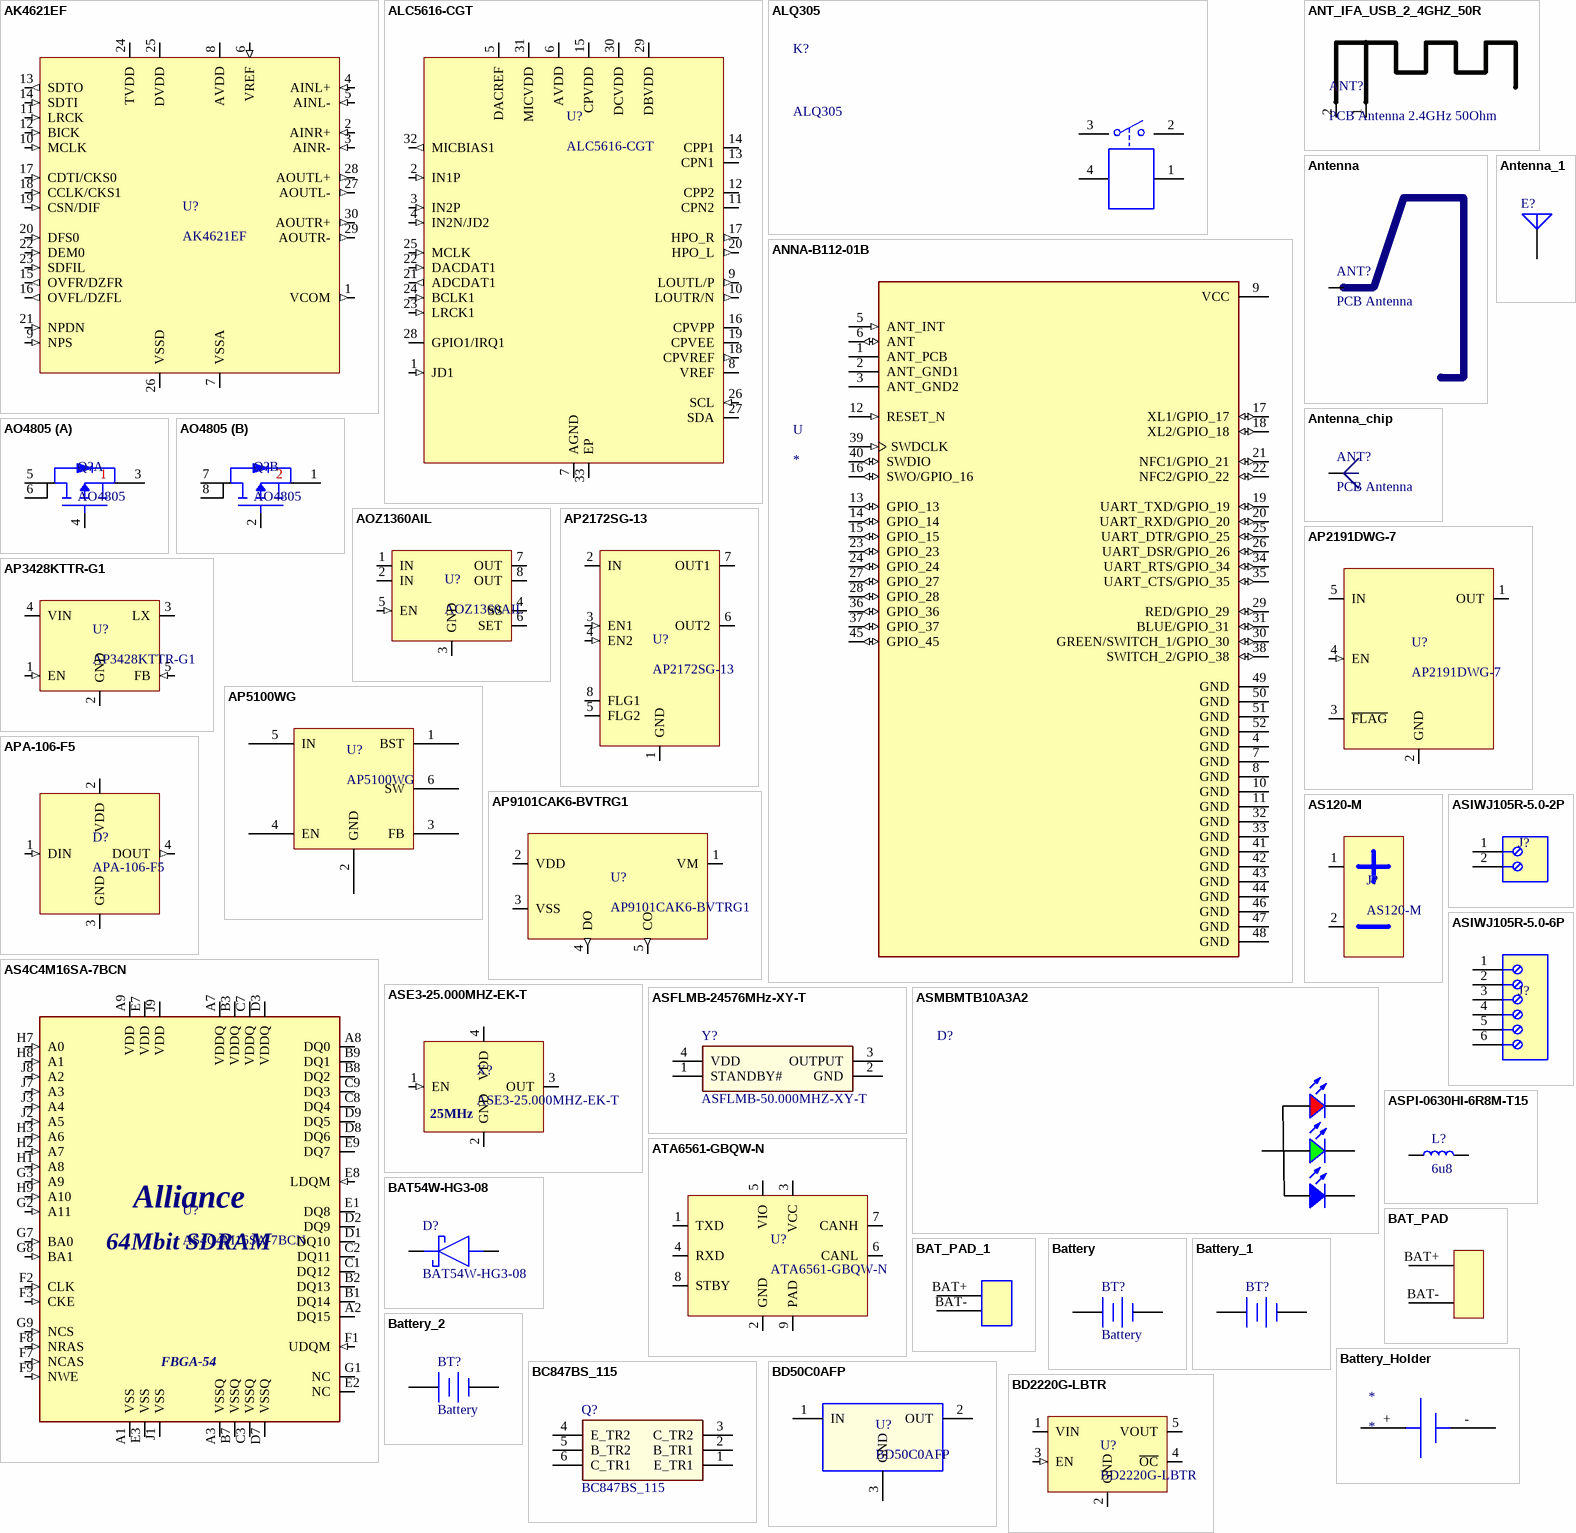
[diagram p4: symbols AK4621EF to BD2220G-LBTR]

## AK4621EF
designator U?
115dB 192kHz 24-bit 2 ch ADC & 2 ch DAC with Low Latency Digital Filter; Manufacturer: AKM; Manufacturer Part Number: AK4621EF
footprint VSOP-30
pins: 1 VCOM (out), 2 AINR+ (in), 3 AINR- (in), 4 AINL+ (in), 5 AINL- (in), 6 VREF (in), 7 VSSA (power), 8 AVDD (power), 9 NPS (in), 10 MCLK (in), 11 LRCK (in), 12 BICK (in), 13 SDTO (out), 14 SDTI (in), 15 OVFR/DZFR (out), 16 OVFL/DZFL (out), 17 CDTI/CKS0 (in), 18 CCLK/CKS1 (in), 19 CSN/DIF (in), 20 DFS0 (in), 21 NPDN (in), 22 DEM0 (in), 23 SDFIL (in), 24 TVDD (power), 25 DVDD (power), 26 VSSD (power), 27 AOUTL- (out), 28 AOUTL+ (out), 29 AOUTR- (out), 30 AOUTR+ (out)

## ALC5616-CGT
designator U?
Ultra-Low Power Audio CODEC; Manufacturer: Realtek; Manufacturer Part Number: ALC5616-CGT
footprint QFN-32-4x4 (QFN, 32-Leads, Body 4.00x4.00mm, Pitch 0.40mm, Thermal Pad 2.70x2.70mm, IPC Medium Density)
pins: 1 JD1 (in), 2 IN1P (in), 3 IN2P (in), 4 IN2N/JD2 (in), 5 DACREF (power), 6 AVDD (power), 7 AGND (power), 8 VREF (power), 9 LOUTL/P (out), 10 LOUTR/N (out), 11 CPN2 (power), 12 CPP2 (power), 13 CPN1 (power), 14 CPP1 (power), 15 CPVDD (power), 16 CPVPP, 17 HPO_R (out), 18 CPVREF (out), 19 CPVEE, 20 HPO_L (out), 21 ADCDAT1 (out), 22 DACDAT1 (in), 23 LRCK1 (in), 24 BCLK1 (in), 25 MCLK (in), 26 SCL (in), 27 SDA (io), 28 GPIO1/IRQ1 (io), 29 DBVDD (power), 30 DCVDD (power), 31 MICVDD (power), 32 MICBIAS1 (out), 33 EP (power)

## ALQ305
designator K?
pins: 1 COIL_1, 2 NO, 3 COM, 4 COIL_2

## ANNA-B112-01B
designator U
MF: U-Blox America; MP: ANNA-B112; Price: None; Package: SMD-52 U-Blox America; SnapEDA_Link: https://www.snapeda.com/parts/ANNA-B112/U-Blox%20America%20Inc./view-part/3115089/?ref=snap; Value: *; Availability: Unavailable
pins: 1 ANT_PCB (power), 2 ANT_GND1 (power), 3 ANT_GND2 (power), 4 GND (power), 5 ANT_INT (in), 6 ANT (io), 7 GND (power), 8 GND (power), 9 VCC (power), 10 GND (power), 11 GND (power), 12 RESET_N (in), 13 GPIO_13 (io), 14 GPIO_14 (io), 15 GPIO_15 (io), 16 SWO/GPIO_16 (io), 17 XL1/GPIO_17 (io), 18 XL2/GPIO_18 (io), 19 UART_TXD/GPIO_19 (io), 20 UART_RXD/GPIO_20 (io), 21 NFC1/GPIO_21 (io), 22 NFC2/GPIO_22 (io), 23 GPIO_23 (io), 24 GPIO_24 (io), 25 UART_DTR/GPIO_25 (io), 26 UART_DSR/GPIO_26 (io), 27 GPIO_27 (io), 28 GPIO_28 (io), 29 RED/GPIO_29 (io), 30 GREEN/SWITCH_1/GPIO_30 (io), 31 BLUE/GPIO_31 (io), 32 GND (power), 33 GND (power), 34 UART_RTS/GPIO_34 (io), 35 UART_CTS/GPIO_35 (io), 36 GPIO_36 (io), 37 GPIO_37 (io), 38 SWITCH_2/GPIO_38 (io), 39 SWDCLK (in), 40 SWDIO (io), 41 GND (power), 42 GND (power), 43 GND (power), 44 GND (power), 45 GPIO_45 (io), 46 GND (power), 47 GND (power), 48 GND (power), 49 GND (power), 50 GND (power), 51 GND (power), 52 GND (power)

## ANT_IFA_USB_2_4GHZ_50R
designator ANT?, comment PCB Antenna 2.4GHz 50Ohm  (no BOM)
Inverted F 2.4GHz ISM PCB Antenna 50 Ohm; ComponentLink1Description: Datasheet; ComponentLink1URL: https://www.ti.com/lit/an/swra117d/swra117d.pdf
footprint ANT_IFA_USB_2_4GHZ_50R
pins: 1 RF, 2 GND

## Antenna
designator ANT?, comment PCB Antenna  (no BOM)
pins: 1

## Antenna_1
designator E?
Generic Antenna; Published: 24-Mar-1999; LatestRevisionDate: 17-Jul-2002; LatestRevisionNote: Re-released for DXP Platform.; PackageReference: PIN1; Publisher: Altium Limited
footprint PIN1 (Generic Antenna; 1 Lead)
pins: 1 A

## Antenna_chip
designator ANT?, comment PCB Antenna
pins: 1

## AO4805
designator Q?
MOSFET P-Channel Vds=-30V Vgs=+-25V Id=-9A Rds(on|=18mOhms; Manufacturer: Alpha & Omega Semicon; Manufacturer Part Number: AO4805; LCSC: C38943
footprint SOIC-8 (SOIC, 8-Leads, Body 4.91x3.90mm, Pitch 1.27mm, IPC Medium Density)
part A pins: 3 S1, 4 G1, 5 D1, 6 D1
part B pins: 1 S2, 2 G2, 7 D2, 8 D2

## AOZ1360AIL
designator U?
28V Programmable Current-Limited Load Switch SO-8; Manufacturer: ALPHA & OMEGA SEMICON; Manufacturer Part Number: AOZ1360AIL
footprint SO-8L (SOIC, 8-Leads, Body 4.90x3.90mm, Pitch 1.27mm, IPC Medium Density)
pins: 1 IN (power), 2 IN (power), 3 GND (power), 4 SS, 5 EN (in), 6 SET (power), 7 OUT (power), 8 OUT (power)

## AP2172SG-13
designator U?
1A DUAL CHANNEL CURRENT-LIMITED POWER SWITCH Enable Active High; Manufacturer: Diodes Incorporated; Manufacturer Part Number: AP2172SG-13
footprint SO-8L (SOIC, 8-Leads, Body 4.90x3.90mm, Pitch 1.27mm, IPC Medium Density)
pins: 1 GND (power), 2 IN (power), 3 EN1 (in), 4 EN2 (in), 5 FLG2 (oc), 6 OUT2 (power), 7 OUT1 (power), 8 FLG1 (oc)

## AP2191DWG-7
designator U?
1.5A SINGLE CHANNEL CURRENT-LIMITED POWER SWITCH WITH OUTPUT DISCHARGE (ENABLE ACTIVE HIGH); Manufacturer: Diodes Incorporated; Manufacturer Part Number: AP2191DWG-7; Distributor Link: https://www.mouser.de/ProductDetail/Diodes-Incorporated/AP2191DWG-7?qs=abZ1nkZpTuNuhhoAfnXVRw%3D%3D
footprint SOT-23-5 (SOT23, 5-Leads, Body 2,90x2,80mm, Pitch 0,95mm, IPC Medium Density)
pins: 1 OUT (power), 2 GND (power), 3 ~{FLAG} (oc), 4 EN (in), 5 IN (power)

## AP3428KTTR-G1
designator U?
1.5MHZ, 1A STEP-DOWN DC-DC BUCK CONVERTER; Manufacturer: Diodes Incorporated; Manufacturer Part Number: AP3428KTTR-G1
footprint TSOT25 (SOT23, 5-Leads, Body 2.90x2.80mm, Pitch 0.95mm, IPC Medium Density)
pins: 1 EN (in), 2 GND (power), 3 LX (power), 4 VIN (power), 5 FB (in)

## AP5100WG
designator U?
Switching Voltage Regulators 1.2A Step-Down Conv 1.4MHz Sw Freq
pins: 1 BST, 2 GND, 3 FB, 4 EN, 5 IN, 6 SW

## AP9101CAK6-BVTRG1
designator U?
1-Cell Li-On Battery Charger and Protection IC; Manufacturer: Diodes Incorporated; Manufacturer Part Number: AP9101CAK6-BVTRG1; Distributor Link: https://www.mouser.de/ProductDetail/Diodes-Incorporated/AP9101CAK6-BVTRG1?qs=lQAVKuKFhkK%2FBM4lfGfubA%3D%3D
footprint SOT-23-5 (SOT23, 5-Leads, Body 2,90x2,80mm, Pitch 0,95mm, IPC Medium Density)
pins: 1 VM (power), 2 VDD (power), 3 VSS (power), 4 DO (out), 5 CO (out)

## APA-106-F5
designator D?
Addressable RGB LED 5MM THT; Manufacturer: iPixel; Manufacturer Part Number: APA-106-F5; Datasheet: https://www.mouser.de/datasheet/2/813/COM_12877-2489746.pdf
footprint LED_RGB_5MM_THT
pins: 1 DIN (in), 2 VDD (power), 3 GND (power), 4 DOUT (out)

## AS4C4M16SA-7BCN
designator U?
64M (4M x 16 bit) Synchronous DRAM (SDRAM) FBGA-54; Manufacturer: Alliance Memory; Manufacturer Part Number: AS4C4M16SA-7BCN
footprint BGA54C80P9X9_800X800X120 (BGA, 54-Leads, Body 8.00x8.00mmx1.20mm, Pitch 0.80mm)
pins: A1 VSS (power), A2 DQ15 (io), A3 VSSQ (power), A7 VDDQ (power), A8 DQ0 (io), A9 VDD (power), B1 DQ14 (io), B2 DQ13 (io), B3 VDDQ (power), B7 VSSQ (power), B8 DQ2 (io), B9 DQ1 (io), C1 DQ12 (io), C2 DQ11 (io), C3 VSSQ (power), C7 VDDQ (power), C8 DQ4 (io), C9 DQ3 (io), D1 DQ10 (io), D2 DQ9 (io), D3 VDDQ (power), D7 VSSQ (power), D8 DQ6 (io), D9 DQ5 (io), E1 DQ8 (io), E2 NC, E3 VSS (power), E7 VDD (power), E8 LDQM (in), E9 DQ7 (io), F1 UDQM (in), F2 CLK (in), F3 CKE (in), F7 NCAS (in), F8 NRAS (in), F9 NWE (in), G1 NC, G2 A11 (in), G3 A9 (in), G7 BA0 (in), G8 BA1 (in), G9 NCS (in), H1 A8 (in), H2 A7 (in), H3 A6 (in), H7 A0 (in), H8 A1 (in), H9 A10 (in), J1 VSS (power), J2 A5 (in), J3 A4 (in), J7 A3 (in), J8 A2 (in), J9 VDD (power)
text: Alliance; 64Mbit SDRAM; FBGA-54

## AS120-M
designator J?
AS120 male 2-pin AMASS; Manufacturer: AMASS; Manufacturer Part Number: AS120-M
footprint AS120-M
pins: 1 V+ (power), 2 V- (power)

## ASE3-25.000MHZ-EK-T
designator X?
Standard Clock Oscillators 25 MHZ 1.8V 15PF 4-PIN 3.2mm x 2.5mm; Manufacturer: ABRACON; Manufacturer Part Number: ASE3-25.000MHZ-EK-T
footprint XTAL_3225
pins: 1 EN (in), 2 GND (power), 3 OUT, 4 VDD (power)
text: 25MHz

## ASFLMB-24576MHz-XY-T
designator Y?, comment ASFLMB-50.000MHZ-XY-T
Manufacturer_Name: ABRACON; Geometry.Height: 0.9mm; Manufacturer_Part_Number: ASFLMB-50.000MHZ-XY-T; Mouser Part Number: 815-ASFLMB-50-XY-T; Mouser Price/Stock: https://www.mouser.com/Search/Refine.aspx?Keyword=815-ASFLMB-50-XY-T; RS Part Number: *; RS Price/Stock: *; Datasheet Link: https://abracon.com/Oscillators/ASFLMB.pdf
pins: 1 STANDBY#, 2 GND, 3 OUTPUT, 4 VDD

## ASIWJ105R-5.0-2P
designator J?
pins: 1, 2

## ASIWJ105R-5.0-6P
designator J?
pins: 1, 2, 3, 4, 5, 6

## ASMBMTB10A3A2
designator D?
pins: 1, 2, 3, 4

## ASPI-0630HI-6R8M-T15
designator L?, comment 6u8
Inductor SMD 6.8uH 20% 8A Shielded; Manufacturer: ABRACON; Manufacturer Part Number: ASPI-0630HI-6R8M-T15
footprint ASPI-0630HI-6R8M-T15
pins: 1, 2

## ATA6561-GBQW-N
designator U?
CAN Interface IC High-Speed FD VDFN-8; Manufacturer: Microchip; Manufacturer Part Number: ATA6561-GBQW-N
footprint VDFN-8
pins: 1 TXD, 2 GND, 3 VCC, 4 RXD, 5 VIO, 6 CANL, 7 CANH, 8 STBY, 9 PAD

## BAT54W-HG3-08
designator D?
Manufacturer_Name: Vishay; Geometry.Height: 1.35mm; Manufacturer_Part_Number: BAT54W-HG3-08; Mouser Part Number: 78-BAT54W-HG3-08; Mouser Price/Stock: https://www.mouser.com/Search/Refine.aspx?Keyword=78-BAT54W-HG3-08; RS Part Number: *; RS Price/Stock: *; Datasheet Link: https://componentsearchengine.com/Datasheets/1/BAT54W-HG3-08.pdf
pins: 1 K, 2 A

## BAT_PAD
designator *  (value not drawn)
pins: BAT+, BAT-

## BAT_PAD_1
designator J?
pins: BAT+, BAT-

## Battery
designator BT?
Multicell Battery
pins: 1 +, 2 -

## Battery_1
designator BT?
Multicell Battery; Published: 24-Mar-1999; LatestRevisionDate: 17-Jul-2002; LatestRevisionNote: Re-released for DXP Platform.; PackageReference: BAT-2; Publisher: Altium Limited; PackageDescription: Battery; 2 Leads
footprint BAT-2 (Battery; 2 Leads)
pins: 1 +, 2 -

## Battery_2
designator BT?, comment Battery
Multicell Battery
pins: 1 +, 2 -

## Battery_Holder
designator *
pins: +, -

## BC847BS_115
designator Q?
Manufacturer_Name: Nexperia; Manufacturer_Part_Number: BC847BS,115; Geometry.Height: 0.95mm; Mouser Part Number: 771-BC847BS-T/R; Mouser Price/Stock: https://www.mouser.com/Search/Refine.aspx?Keyword=771-BC847BS-T%2FR; RS Part Number: 4845059P; RS Price/Stock: http://uk.rs-online.com/web/p/products/4845059P; Datasheet Link: https://assets.nexperia.com/documents/data-sheet/BC847BS.pdf
pins: 1 E_TR1, 2 B_TR1, 3 C_TR2, 4 E_TR2, 5 B_TR2, 6 C_TR1

## BD50C0AFP
designator U?
pins: 1 IN, 2 OUT, 3 GND

## BD2220G-LBTR
designator U?
High-Side USB Current Limited Power Distribution Switch 1A SMD; Manufacturer: ROHM Semiconductor; Manufacturer Part Number: BD2220G-LBTR
footprint SSOP5
pins: 1 VIN (power), 2 GND (power), 3 EN (in), 4 ~{OC}, 5 VOUT

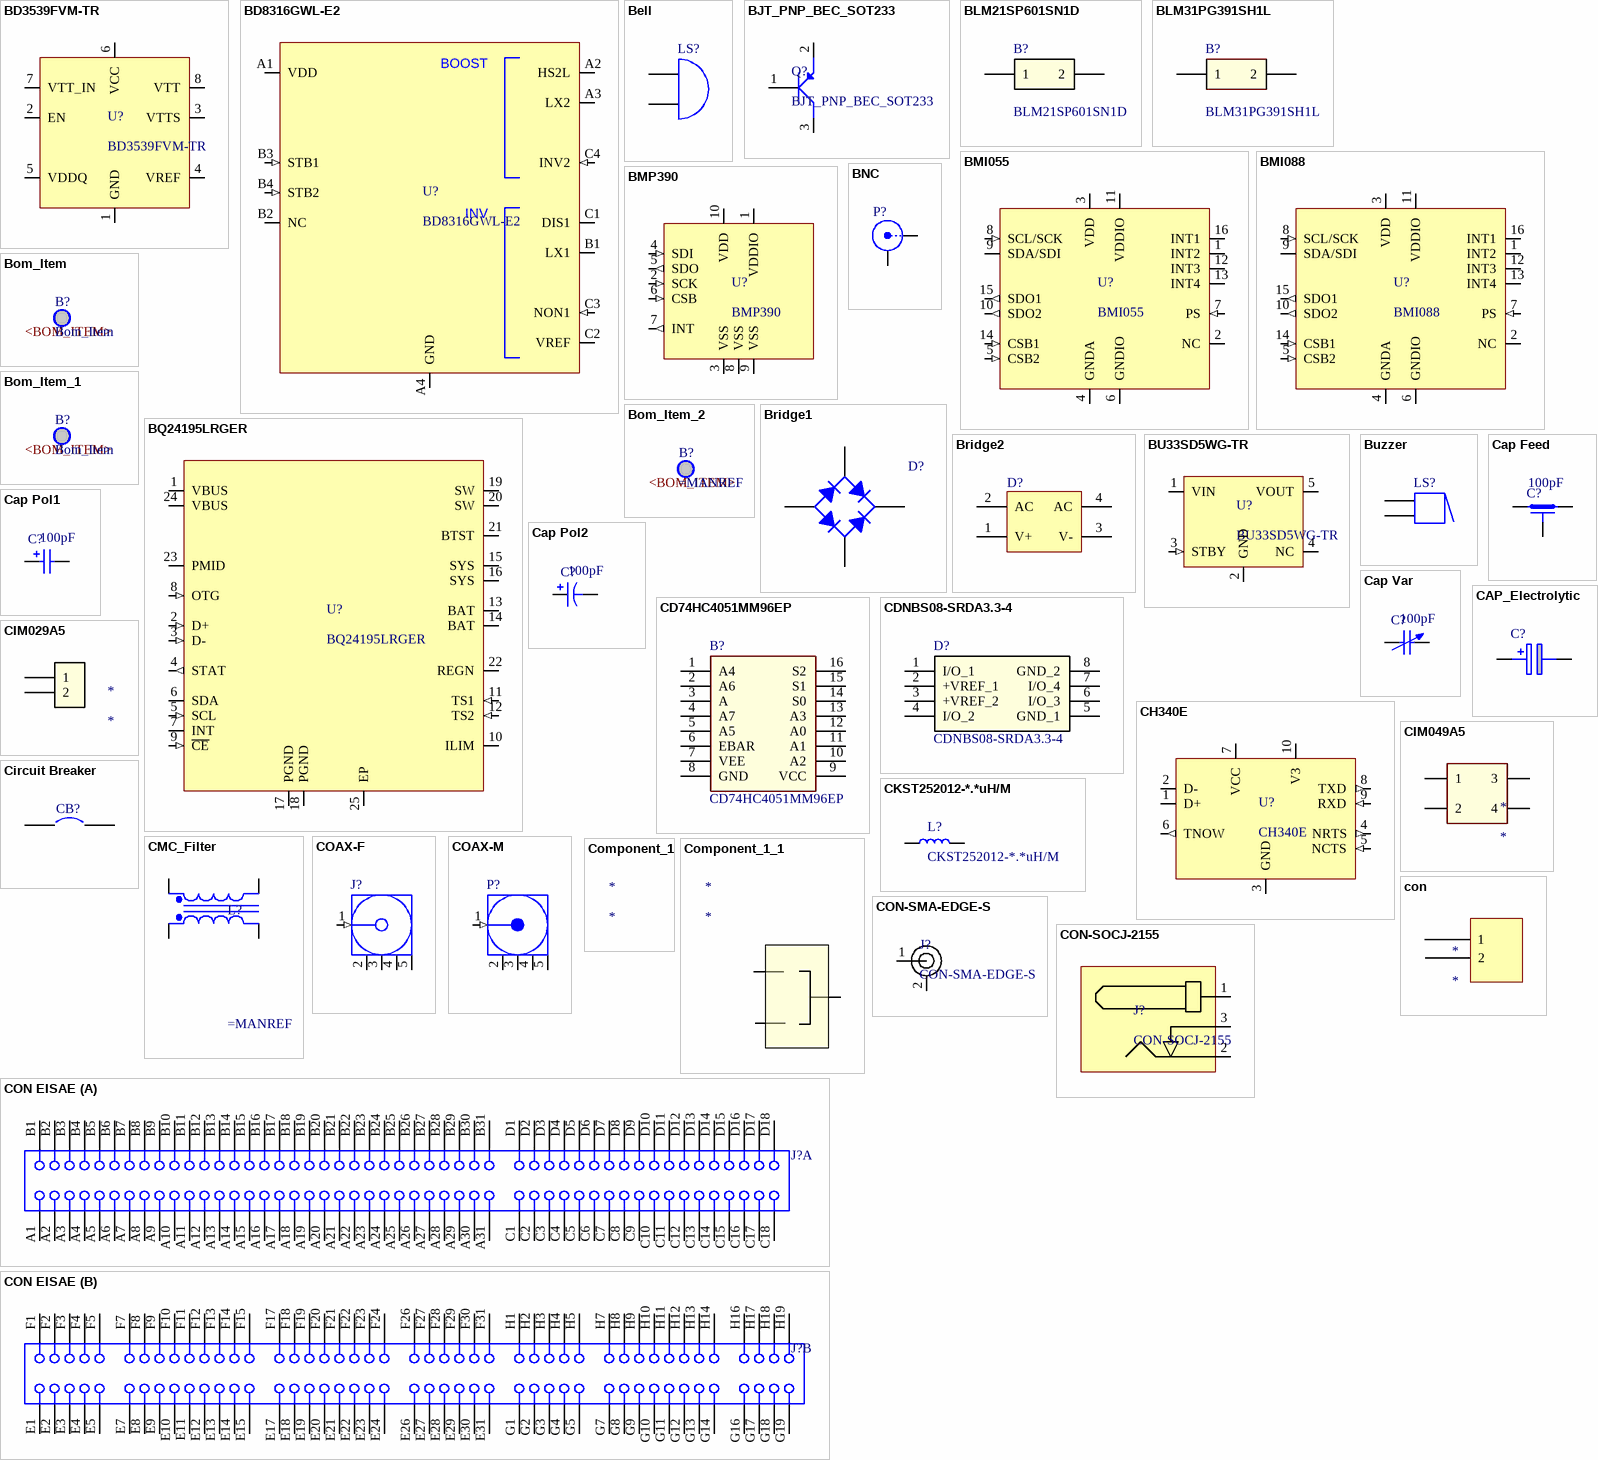
[diagram p5: symbols BD3539FVM-TR to CON-SOCJ-2155]

## BD3539FVM-TR
designator U?
1.0V to 5.5V, 1A 1Ch Termination Regulator for DDR-SDRAMs; Manufacturer: ROHM Semiconductor; Manufacturer Part Number: BD3539FVM-TR
footprint MSOP8 (TSOP, 8-Leads, Body 2.90x2.80mm, Pitch 0.65mm, IPC Medium Density)
pins: 1 GND, 2 EN, 3 VTTS, 4 VREF, 5 VDDQ, 6 VCC, 7 VTT_IN, 8 VTT

## BD8316GWL-E2
designator U?
Step-up and inverted 2-channel DC/DC converter with Built-in Power MOSFET 1.6MHz 1A; Manufacturer: ROHM; Manufacturer Part Number: BD8316GWL-E2; Distributor Link: https://www.mouser.de/ProductDetail/ROHM-Semiconductor/BD8316GWL-E2?qs=9Cg39qEKpi4sbGytSKsU5Q%3D%3D
footprint UCSP50L1
pins: A1 VDD (power), A2 HS2L (power), A3 LX2 (power), A4 GND (power), B1 LX1 (power), B2 NC, B3 STB1 (in), B4 STB2 (in), C1 DIS1 (power), C2 VREF (power), C3 NON1 (in), C4 INV2 (in)
text: BOOST; INV

## Bell
designator LS?
Electrical Bell; Published: 24-Mar-1999; LatestRevisionDate: 17-Jul-2002; LatestRevisionNote: Re-released for DXP Platform.; PackageReference: PIN2; Publisher: Altium Limited
footprint PIN2 (Electrical Bell; 2 Leads)
pins: 1 A, 2 B

## BJT_PNP_BEC_SOT233
designator Q?
Transistor BJT PNP SOT-23-3 Package Base=1 Emitter=2 Collector=3
footprint SOT-23-3
pins: 1 B, 2 E, 3 C

## BLM21SP601SN1D
designator B?
Manufacturer_Name: Murata Electronics; Geometry.Height: 1.05mm; Manufacturer_Part_Number: BLM21SP601SN1D; Mouser Part Number: 81-BLM21SP601SN1D; Mouser Price/Stock: https://www.mouser.com/Search/Refine.aspx?Keyword=81-BLM21SP601SN1D; RS Part Number: *; RS Price/Stock: *; Datasheet Link: https://www.murata.com/en-us/products/productdetail?partno=BLM21SP601SN1%23
pins: 1, 2

## BLM31PG391SH1L
designator B?
Manufacturer_Name: Murata Electronics; Geometry.Height: 1.3mm; Manufacturer_Part_Number: BLM31PG391SH1L; Mouser Part Number: 81-BLM31PG391SH1L; Mouser Price/Stock: https://www.mouser.com/Search/Refine.aspx?Keyword=81-BLM31PG391SH1L; RS Part Number: 1048547P; RS Price/Stock: http://uk.rs-online.com/web/p/products/1048547P; Datasheet Link: https://www.murata.com/en-us/products/productdetail?partno=BLM31PG391SH1%23
pins: 1, 2

## BMI055
designator U?
Inertial Measurement Unit IMU 6-Axis LGA; Manufacturer: Bosch; Manufacturer Part Number: BMI055; LCSC: C189620
footprint BMI088
pins: 1 INT2 (io), 2 NC, 3 VDD (power), 4 GNDA (power), 5 CSB2 (in), 6 GNDIO (power), 7 PS (in), 8 SCL/SCK (in), 9 SDA/SDI (io), 10 SDO2 (out), 11 VDDIO (power), 12 INT3 (io), 13 INT4 (io), 14 CSB1 (in), 15 SDO1 (out), 16 INT1 (io)

## BMI088
designator U?
Inertial Measurement Unit IMU 6-Axis LGA; Manufacturer: Bosch; Manufacturer Part Number: BMI088
footprint BMI088
pins: 1 INT2 (io), 2 NC, 3 VDD (power), 4 GNDA (power), 5 CSB2 (in), 6 GNDIO (power), 7 PS (in), 8 SCL/SCK (in), 9 SDA/SDI (io), 10 SDO2 (out), 11 VDDIO (power), 12 INT3 (io), 13 INT4 (io), 14 CSB1 (in), 15 SDO1 (out), 16 INT1 (io)

## BMP390
designator U?
Digital Pressure Sensor SPI/I2C; Manufacturer: Bosch; Manufacturer Part Number: BMP390; Distributor Link: https://www.mouser.de/ProductDetail/Bosch-Sensortec/BMP390?qs=QNEnbhJQKvYQVfvRMgo2YA%3D%3D
footprint LGA10_BMP390
pins: 1 VDDIO (power), 2 SCK (in), 3 VSS (power), 4 SDI (in), 5 SDO (out), 6 CSB (in), 7 INT (out), 8 VSS (power), 9 VSS (power), 10 VDD (power)

## BNC
designator P?
BNC Elbow Connector
pins: 1 X, 2 Y

## Bom_Item
designator B?  (mechanical)
BOM item
text: <BOM_ITEM>

## Bom_Item_1
designator B?, comment Bom_Item  (mechanical)
text: <BOM_ITEM>

## Bom_Item_2
designator B?  (mechanical)
text: <BOM_ITEM>

## BQ24195LRGER
designator U?
I2C Controlled 2.5-A /4.5-A Single Cell USB/Adapter Charger with 5.1 V at 1A /5.1 V at 2.1 A Synchronous Boost Operation; Manufacturer: Texas Instruments; Manufacturer Part Number: BQ24195LRGER; Distributor Link: https://www.mouser.de/ProductDetail/Texas-Instruments/BQ24195LRGER?qs=E2%2FxqS9xjzoHv98LC15jGg%3D%3D
footprint QFN-24 (QFN, 24-Leads, Body 4.00x4.00mm, Pitch 0.50mm, Thermal Pad 2.50x2.50mm, IPC Medium Density)
pins: 1 VBUS (power), 2 D+ (in), 3 D- (in), 4 STAT (out), 5 SCL (in), 6 SDA (io), 7 INT (oc), 8 OTG (in), 9 ~{CE} (in), 10 ILIM, 11 TS1 (in), 12 TS2 (in), 13 BAT (power), 14 BAT (power), 15 SYS (power), 16 SYS (power), 17 PGND (power), 18 PGND (power), 19 SW (oe), 20 SW (power), 21 BTST (power), 22 REGN (power), 23 PMID (power), 24 VBUS (power), 25 EP (power)

## Bridge1
designator D?
Full Wave Diode Bridge; Published: 8-Jun-2000; LatestRevisionDate: 29-May-2009; LatestRevisionNote: Sch pins A & K swapped.; DatasheetVersion: E2732B; PackageReference: D-38; Publisher: Altium Limited; PackageDescription: Bridge Rectifier; 4 Terminals; Body 9.4 x 9.4 mm (typ); Pitch 5.08 mm
footprint D-38 (Bridge Rectifier; 4 Terminals; Body 9.4 x 9.4 mm (typ); Pitch 5.08 mm)
simulation model BRIDGE (Spice Subcircuit)
pins: 1 K, 2 C, 3 A, 4 C

## Bridge2
designator D?
Diode Bridge; Published: 24-Mar-1999; LatestRevisionDate: 17-Jul-2002; LatestRevisionNote: Re-released for DXP Platform.; PackageReference: D-46_6A; Publisher: Altium Limited; PackageDescription: Bridge Rectifier; 4 Terminals; Body 16.8 x 16.8 mm (typ); Pitch 10.67 mm
footprint D-46_6A (Bridge Rectifier; 4 Terminals; Body 16.8 x 16.8 mm (typ); Pitch 10.67 mm)
simulation model BRIDGE (Spice Subcircuit)
pins: 1 V+, 2 AC, 3 V-, 4 AC

## BU33SD5WG-TR
designator U?
LDO Voltage Regulator 3.3V 500mA; Manufacturer: ROHM Semiconductor; Manufacturer Part Number: BU33SD5WG-TR
footprint SOT-23-5 (SOT23, 5-Leads, Body 2,90x2,80mm, Pitch 0,95mm, IPC Medium Density)
pins: 1 VIN (power), 2 GND (power), 3 STBY (in), 4 NC, 5 VOUT (power)

## Buzzer
designator LS?
Magnetic Transducer Buzzer; Published: 24-Mar-1999; LatestRevisionDate: 17-Dec-2003; LatestRevisionNote: Schematic revised, PCB Footprint replaced.; DatasheetVersion: 17-Dec-2003; PackageReference: ABSM-1574; Publisher: Altium Limited; PackageDescription: Magnetic Transducer Buzzer; ComponentLink1Description: Manufacturer Link; ComponentLink1URL: http://www.megastar.com/linecard/buzzmode/index.php
footprint ABSM-1574 (Magnetic Transducer Buzzer)
pins: 1, 2
1 alternate drawing of the same symbol

## Cap Feed
designator C?  value 100pF
Feed-Through Capacitor; Note: Commonly used for bypassing high-frequency currents to chassis; Published: 24-Mar-1999; LatestRevisionDate: 17-Jul-2002; LatestRevisionNote: Re-released for DXP Platform.; PackageReference: VR4; Publisher: Altium Limited; PackageDescription: Variable Resistor, Thru-Hole; 3 Leads
footprint VR4 (Thru-Hole; 3 Leads)
signal-integrity model Cap Feed
pins: 1, 2, 3

## Cap Pol1
designator C?  value 100pF
Polarized Capacitor (Radial); Published: 8-Jun-2000; LatestRevisionDate: 17-Jul-2002; LatestRevisionNote: Re-released for DXP Platform.; PackageReference: RB7.6-15; Publisher: Altium Limited; PackageDescription: Polarized Capacitor (Radial); 2 Leads
footprint RB7.6-15 (Polarized Capacitor (Radial); 2 Leads)
simulation model CAP (Capacitor)
signal-integrity model Cap Pol
pins: 1, 2
1 alternate drawing of the same symbol

## Cap Pol2
designator C?  value 100pF
Polarized Capacitor (Axial); Published: 8-Jun-2000; LatestRevisionDate: 17-Jul-2002; LatestRevisionNote: Re-released for DXP Platform.; PackageReference: POLAR0.8; Publisher: Altium Limited; PackageDescription: Polarized Capacitor; 2 Leads
footprint POLAR0.8 (Polarized Capacitor; 2 Leads)
simulation model CAP (Capacitor)
signal-integrity model Cap Pol
pins: 1, 2
1 alternate drawing of the same symbol

## Cap Var
designator C?  value 100pF
Variable or Adjustable Capacitor; Published: 24-Mar-1999; LatestRevisionDate: 29-May-2009; LatestRevisionNote: IPC-7351 Footprint Added.; PackageReference: C1210; Publisher: Altium Limited; PackageDescription: Chip Capacitor 1210 Case Size; Code_JEITA: 1210; Code_IPC: CAPC3225
footprint C1210_N (Chip Capacitor, Body 3.2x2.5mm, IPC Medium Density)
footprint C1210_L (Chip Capacitor, Body 3.2x2.5mm, IPC High Density)
footprint C1210_M (Chip Capacitor, Body 3.2x2.5mm, IPC Low Density)
signal-integrity model Cap Var
pins: 1, 2

## CAP_Electrolytic
designator C?
Manufacturer_Name: Panasonic; Manufacturer_Part_Number: EEE-HC1C101XP; Allied_Number: 70258549; Geometry.Height: 8mm; Mouser Part Number: 667-EEE-HC1C101XP; Mouser Price/Stock: https://www.mouser.com/Search/Refine.aspx?Keyword=667-EEE-HC1C101XP; RS Part Number: *; RS Price/Stock: *; Allied Price/Stock: https://www.alliedelec.com/panasonic-eee-hc1c101xp/70258549/; Datasheet Link: http://industrial.panasonic.com/www-cgi/jvcr13pz.cgi?E+PZ+3+ABA0109+EEEHC1C101XP+7+WW
pins: 1 +, 2 -

## CD74HC4051MM96EP
designator B?
Manufacturer_Name: Texas Instruments; Geometry.Height: 1.75mm; Manufacturer_Part_Number: CD74HC4051MM96EP; Mouser Part Number: 595-CD74HC4051MM96EP; Mouser Price/Stock: https://www.mouser.com/Search/Refine.aspx?Keyword=595-CD74HC4051MM96EP; RS Part Number: *; RS Price/Stock: *; Datasheet Link: http://www.ti.com/lit/gpn/cd74hc4051-ep
pins: 1 A4, 2 A6, 3 A, 4 A7, 5 A5, 6 EBAR, 7 VEE, 8 GND, 9 VCC, 10 A2, 11 A1, 12 A0, 13 A3, 14 S0, 15 S1, 16 S2

## CDNBS08-SRDA3.3-4
designator D?
Manufacturer_Name: Bourns; Allied_Number: 70155072; Geometry.Height: 1.75mm; Manufacturer_Part_Number: CDNBS08-SRDA3.3-4; Mouser Part Number: 652-CDNBS08SRDA3.3-4; Mouser Price/Stock: https://www.mouser.com/Search/Refine.aspx?Keyword=652-CDNBS08SRDA3.3-4; RS Part Number: 7734555; RS Price/Stock: http://uk.rs-online.com/web/p/products/7734555; Allied Price/Stock: https://www.alliedelec.com/bourns-cdnbs08-srda3-3-4/70155072/; Datasheet Link: https://www.bourns.com/data/global/pdfs/CDNBS08_SRDAxx_4.pdf
pins: 1 I/O_1, 2 +VREF_1, 3 +VREF_2, 4 I/O_2, 5 GND_1, 6 I/O_3, 7 I/O_4, 8 GND_2

## CH340E
designator U?
USB-to-UART Transceiver MSOP-10; Manufacturer Part Number: CH340E
footprint MSOP-10
pins: 1 D+ (io), 2 D- (io), 3 GND (power), 4 NRTS (out), 5 NCTS (in), 6 TNOW (out), 7 VCC (power), 8 TXD (out), 9 RXD (in), 10 V3 (power)

## CIM029A5
designator *
pins: 1, 2

## CIM049A5
designator *
pins: 1, 2, 3, 4

## Circuit Breaker
designator CB?
Circuit Breaker; Published: 24-Mar-1999; LatestRevisionDate: 17-Jul-2002; LatestRevisionNote: Re-released for DXP Platform.; PackageReference: SPST-2; Publisher: Altium Limited; PackageDescription: Switch; 2 Leads
footprint SPST-2 (Switch; 2 Leads)
pins: 1, 2

## CKST252012-*.*uH/M
designator L?
Inductor SMD Shielded 20%; Manufacturer: Shenzhen Cenker Enterprise Ltd; Manufacturer Part Number: CKST252012-*.*uH/M; Distributor Link: *
footprint CKST252012
pins: 1, 2

## CMC_Filter
designator L?
pins: 1 In_p1, 2 Out_p1, 3 In_p2, 4 Out_P2

## COAX-F
designator J?
RF Coaxial PCB Connector, MCX; Thru-Hole, Right-Angle Mount Socket, Blunt Post Terminal, 50 Ohm Impedance
pins: 1 Signal (in) "Signal Pin", 2 GND (power), 3 GND (power), 4 GND (power), 5 GND (power)

## COAX-M
designator P?
RF Coaxial PCB Connector, MMCX; Thru-Hole, Vertical Mount Plug,  50 Ohm Impedance
pins: 1 Signal (in) "Signal Pin", 2 GND (power), 3 GND (power), 4 GND (power), 5 GND (power)

## Component_1
designator *

## Component_1_1
designator *
pins: 1, 2, 3

## con
designator *
pins: 1, 2